# Altium integrated library Renesas Microcontroller H8S.IntLib: 670 symbols (part 69 of 70)
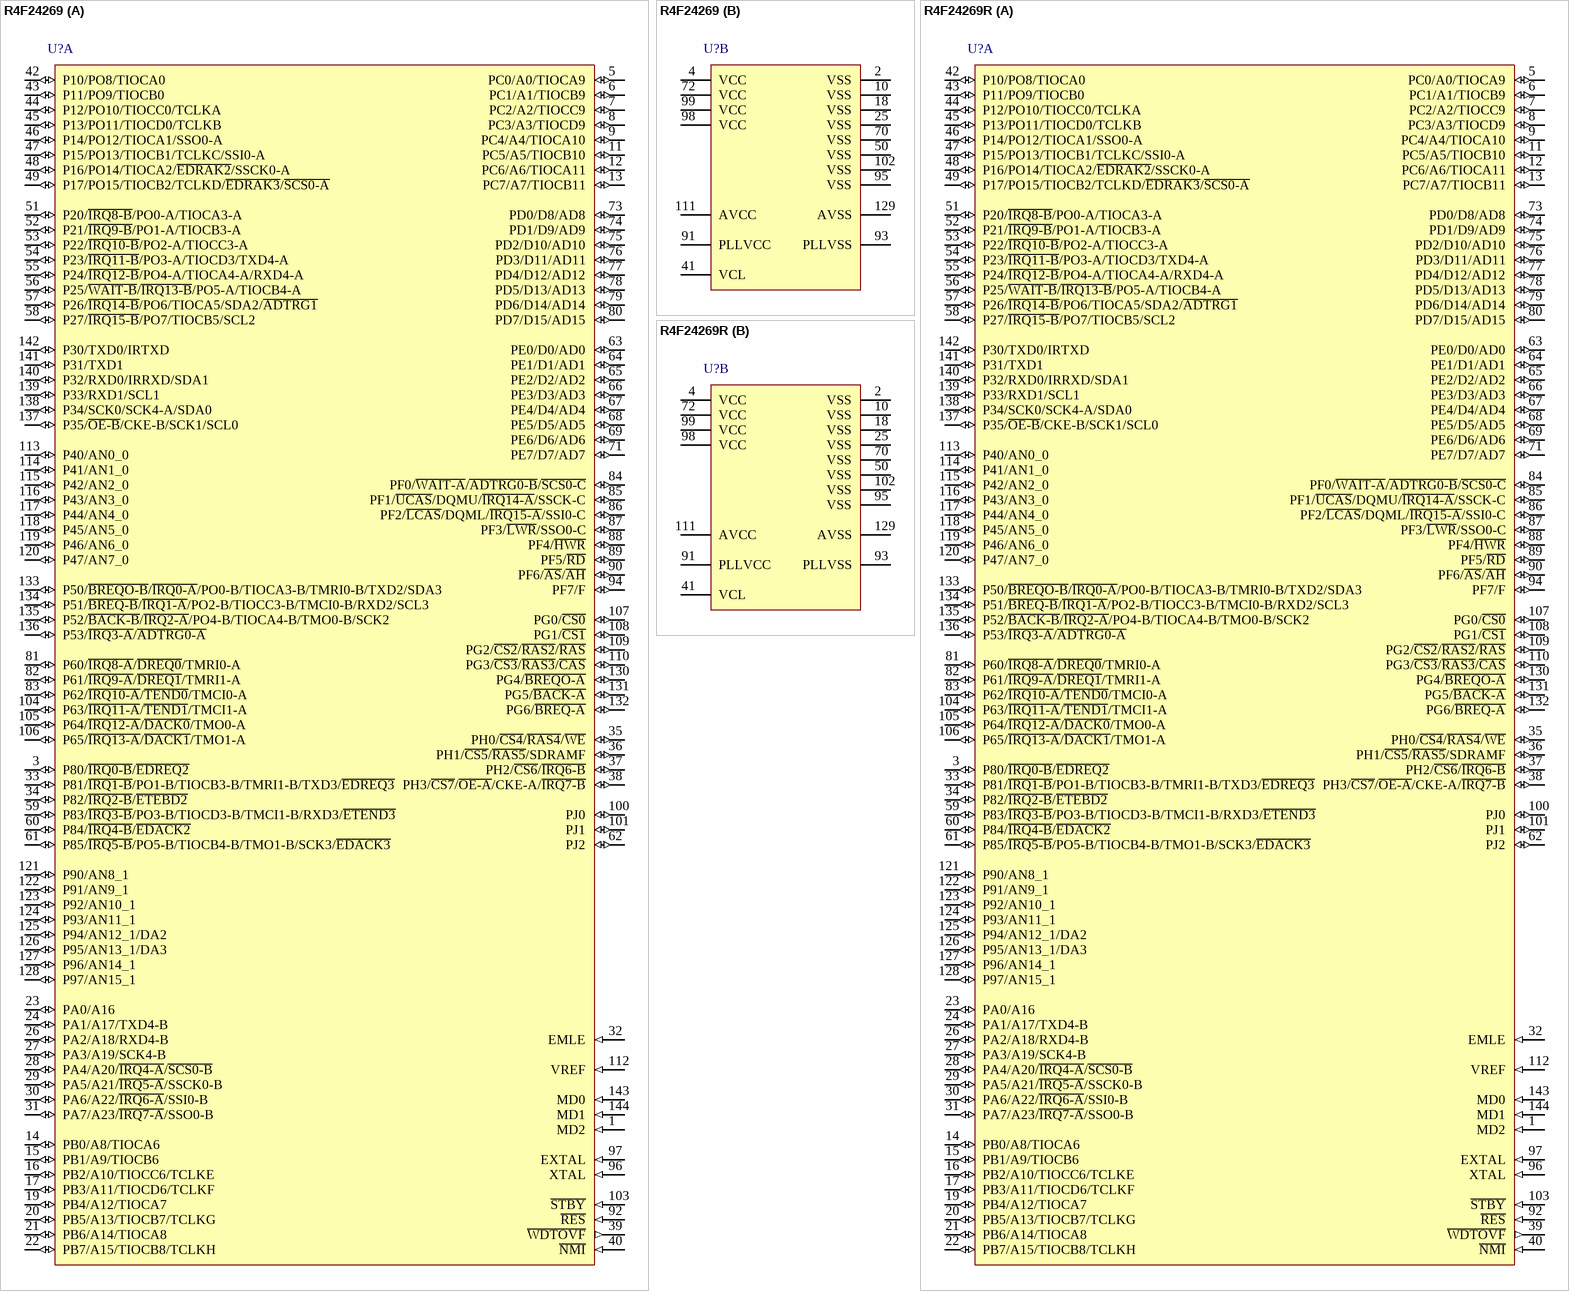
[diagram p279: symbols R4F24269 to R4F24269R]

## R4F24269R
designator U?
Flash memory H8S/2400 Series, 2426R Group MCU, 256K ROM, 64K RAM, FP-144H Pkg; Published: 28-Aug-2009; DatasheetVersion: Rev.2.00, Apr-2009; PackageVersion: Sep-2005; PackageReference: PLQP0144KC-A; Publisher: Altium Limited; PackageDescription: 144-Pin Plastic Low Profile QFP, 20 x 20 x 1.45 mm Body, 0.5 mm Pitch; Code_JEITA: P-LQFP144-20x20-0.50; Code_IPC: SQFP50P2200X2200-144; ComponentLink1Description: Manufacturer Link; ComponentLink1URL: http://sg.renesas.com/fmwk.jsp?cnt=h8s_family_landing.jsp&fp=/products/mpumcu/h8s_family/; ComponentLink2Description: Datasheet; ComponentLink2URL: http://documentation.renesas.com/eng/products/mpumcu/rej09b0466_h8s2426hm.pdf; ComponentLink3Description: Packaging Specification; ComponentLink3URL: http://sg.renesas.com/media/products/common_info/package/pdf/ic/code/plqp0144kc_a.pdf
footprint PLQP0144KC-A_N (Shrink QFP, 144-Leads, Body 20x20mm, Pitch 0.5mm, IPC Medium Density)
footprint PLQP0144KC-A_L (Shrink QFP, 144-Leads, Body 20x20mm, Pitch 0.5mm, IPC High Density)
footprint PLQP0144KC-A_M (Shrink QFP, 144-Leads, Body 20x20mm, Pitch 0.5mm, IPC Low Density)
part A pins: 1 MD2 (in), 3 P80/~{IRQ0-B}/~{EDREQ2} (io), 5 PC0/A0/TIOCA9 (io), 6 PC1/A1/TIOCB9 (io), 7 PC2/A2/TIOCC9 (io), 8 PC3/A3/TIOCD9 (io), 9 PC4/A4/TIOCA10 (io), 11 PC5/A5/TIOCB10 (io), 12 PC6/A6/TIOCA11 (io), 13 PC7/A7/TIOCB11 (io), 14 PB0/A8/TIOCA6 (io), 15 PB1/A9/TIOCB6 (io), 16 PB2/A10/TIOCC6/TCLKE (io), 17 PB3/A11/TIOCD6/TCLKF (io), 19 PB4/A12/TIOCA7 (io), 20 PB5/A13/TIOCB7/TCLKG (io), 21 PB6/A14/TIOCA8 (io), 22 PB7/A15/TIOCB8/TCLKH (io), 23 PA0/A16 (io), 24 PA1/A17/TXD4-B (io), 26 PA2/A18/RXD4-B (io), 27 PA3/A19/SCK4-B (io), 28 PA4/A20/~{IRQ4-A}/~{SCS0-B} (io), 29 PA5/A21/~{IRQ5-A}/SSCK0-B (io), 30 PA6/A22/~{IRQ6-A}/SSI0-B (io), 31 PA7/A23/~{IRQ7-A}/SSO0-B (io), 32 EMLE (in), 33 P81/~{IRQ1-B}/PO1-B/TIOCB3-B/TMRI1-B/TXD3/~{EDREQ3} (io), 34 P82/~{IRQ2-B}/~{ETEBD2} (io), 35 PH0/~{CS4}/~{RAS4}/~{WE} (io), 36 PH1/~{CS5}/~{RAS5}/SDRAMF (io), 37 PH2/~{CS6}/~{IRQ6-B} (io), 38 PH3/~{CS7}/~{OE-A}/CKE-A/~{IRQ7-B} (io), 39 ~{WDTOVF} (out), 40 ~{NMI} (in), 42 P10/PO8/TIOCA0 (io), 43 P11/PO9/TIOCB0 (io), 44 P12/PO10/TIOCC0/TCLKA (io), 45 P13/PO11/TIOCD0/TCLKB (io), 46 P14/PO12/TIOCA1/SSO0-A (io), 47 P15/PO13/TIOCB1/TCLKC/SSI0-A (io), 48 P16/PO14/TIOCA2/~{EDRAK2}/SSCK0-A (io), 49 P17/PO15/TIOCB2/TCLKD/~{EDRAK3}/~{SCS0-A} (io), 51 P20/~{IRQ8-B}/PO0-A/TIOCA3-A (io), 52 P21/~{IRQ9-B}/PO1-A/TIOCB3-A (io), 53 P22/~{IRQ10-B}/PO2-A/TIOCC3-A (io), 54 P23/~{IRQ11-B}/PO3-A/TIOCD3/TXD4-A (io), 55 P24/~{IRQ12-B}/PO4-A/TIOCA4-A/RXD4-A (io), 56 P25/~{WAIT-B}/~{IRQ13-B}/PO5-A/TIOCB4-A (io), 57 P26/~{IRQ14-B}/PO6/TIOCA5/SDA2/~{ADTRG1} (io), 58 P27/~{IRQ15-B}/PO7/TIOCB5/SCL2 (io), 59 P83/~{IRQ3-B}/PO3-B/TIOCD3-B/TMCI1-B/RXD3/~{ETEND3} (io), 60 P84/~{IRQ4-B}/~{EDACK2} (io), 61 P85/~{IRQ5-B}/PO5-B/TIOCB4-B/TMO1-B/SCK3/~{EDACK3} (io), 62 PJ2 (io), 63 PE0/D0/AD0 (io), 64 PE1/D1/AD1 (io), 65 PE2/D2/AD2 (io), 66 PE3/D3/AD3 (io), 67 PE4/D4/AD4 (io), 68 PE5/D5/AD5 (io), 69 PE6/D6/AD6 (io), 71 PE7/D7/AD7 (io), 73 PD0/D8/AD8 (io), 74 PD1/D9/AD9 (io), 75 PD2/D10/AD10 (io), 76 PD3/D11/AD11 (io), 77 PD4/D12/AD12 (io), 78 PD5/D13/AD13 (io), 79 PD6/D14/AD14 (io), 80 PD7/D15/AD15 (io), 81 P60/~{IRQ8-A}/~{DREQ0}/TMRI0-A (io), 82 P61/~{IRQ9-A}/~{DREQ1}/TMRI1-A (io), 83 P62/~{IRQ10-A}/~{TEND0}/TMCI0-A (io), 84 PF0/~{WAIT-A}/~{ADTRG0-B}/~{SCS0-C} (io), 85 PF1/~{UCAS}/DQMU/~{IRQ14-A}/SSCK-C (io), 86 PF2/~{LCAS}/DQML/~{IRQ15-A}/SSI0-C (io), 87 PF3/~{LWR}/SSO0-C (io), 88 PF4/~{HWR} (io), 89 PF5/~{RD} (io), 90 PF6/~{AS}/~{AH} (io), 92 ~{RES} (in), 94 PF7/F (io), 96 XTAL (in), 97 EXTAL (in), 100 PJ0 (io), 101 PJ1 (io), 103 ~{STBY} (in), 104 P63/~{IRQ11-A}/~{TEND1}/TMCI1-A (io), 105 P64/~{IRQ12-A}/~{DACK0}/TMO0-A (io), 106 P65/~{IRQ13-A}/~{DACK1}/TMO1-A (io), 107 PG0/~{CS0} (io), 108 PG1/~{CS1} (io), 109 PG2/~{CS2}/~{RAS2}/~{RAS} (io), 110 PG3/~{CS3}/~{RAS3}/~{CAS} (io), 112 VREF (in), 113 P40/AN0_0 (io), 114 P41/AN1_0 (io), 115 P42/AN2_0 (io), 116 P43/AN3_0 (io), 117 P44/AN4_0 (io), 118 P45/AN5_0 (io), 119 P46/AN6_0 (io), 120 P47/AN7_0 (io), 121 P90/AN8_1 (io), 122 P91/AN9_1 (io), 123 P92/AN10_1 (io), 124 P93/AN11_1 (io), 125 P94/AN12_1/DA2 (io), 126 P95/AN13_1/DA3 (io), 127 P96/AN14_1 (io), 128 P97/AN15_1 (io), 130 PG4/~{BREQO-A} (io), 131 PG5/~{BACK-A} (io), 132 PG6/~{BREQ-A} (io), 133 P50/~{BREQO-B}/~{IRQ0-A}/PO0-B/TIOCA3-B/TMRI0-B/TXD2/SDA3 (io), 134 P51/~{BREQ-B}/~{IRQ1-A}/PO2-B/TIOCC3-B/TMCI0-B/RXD2/SCL3 (io), 135 P52/~{BACK-B}/~{IRQ2-A}/PO4-B/TIOCA4-B/TMO0-B/SCK2 (io), 136 P53/~{IRQ3-A}/~{ADTRG0-A} (io), 137 P35/~{OE-B}/CKE-B/SCK1/SCL0 (io), 138 P34/SCK0/SCK4-A/SDA0 (io), 139 P33/RXD1/SCL1 (io), 140 P32/RXD0/IRRXD/SDA1 (io), 141 P31/TXD1 (io), 142 P30/TXD0/IRTXD (io), 143 MD0 (in), 144 MD1 (in)
part B pins: 2 VSS (power), 4 VCC (power), 10 VSS (power), 18 VSS (power), 25 VSS (power), 41 VCL, 50 VSS (power), 70 VSS (power), 72 VCC (power), 91 PLLVCC (power), 93 PLLVSS (power), 95 VSS (power), 98 VCC (power), 99 VCC (power), 102 VSS (power), 111 AVCC (power), 129 AVSS (power)

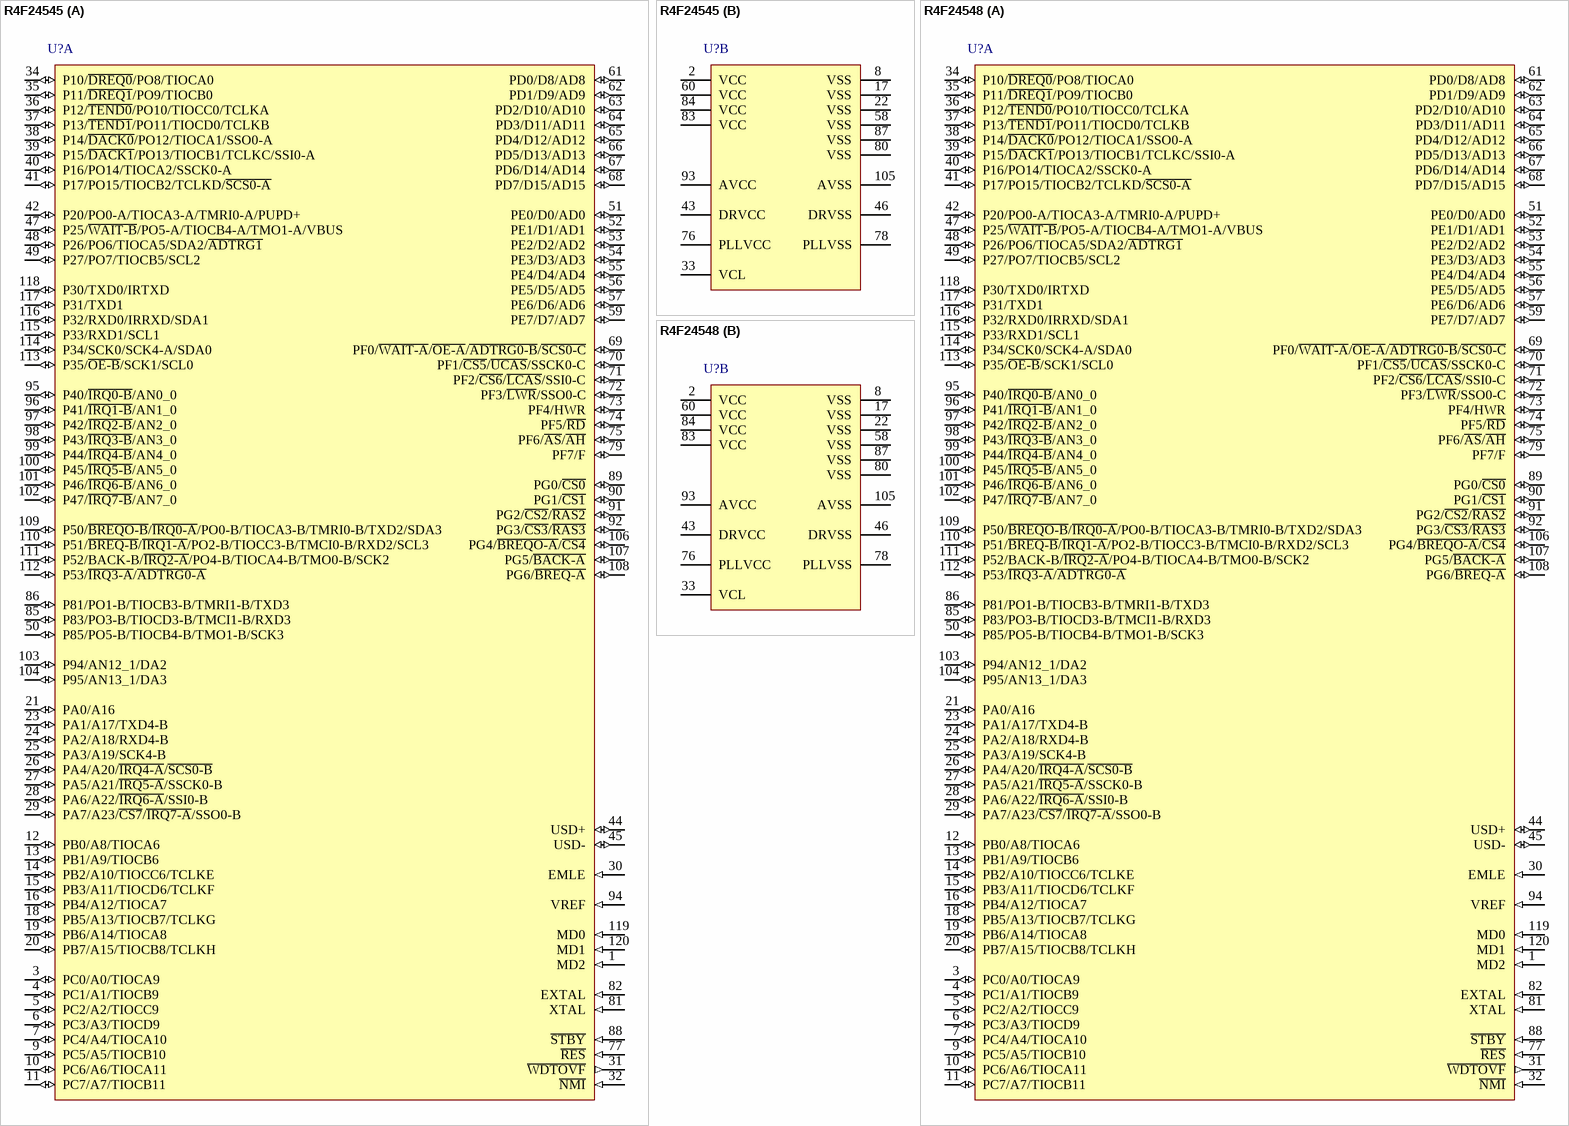
[diagram p235: symbols R4F24545 to R4F24548]

## R4F24545
designator U?
Flash memory H8S/2400 Series, 2454 Group MCU, 128K ROM, 48K RAM; Published: 28-Aug-2009; DatasheetVersion: Rev.2.00, Apr-2009; PackageVersion: Sep-2005; PackageReference: PLQP0120LA-A; Publisher: Altium Limited; PackageDescription: 120-Pin Plastic Low Profile QFP, 14 x 14 x 1.4 mm Body, 0.4 mm Pitch; Code_JEITA: P-LQFP120-14x14-0.40; ComponentLink1Description: Manufacturer Link; ComponentLink1URL: http://sg.renesas.com/fmwk.jsp?cnt=h8s_family_landing.jsp&fp=/products/mpumcu/h8s_family/; ComponentLink2Description: Datasheet; ComponentLink2URL: http://documentation.renesas.com/eng/products/mpumcu/rej09b0467_h8s2456hm.pdf; ComponentLink3Description: Packaging Specification; ComponentLink3URL: http://sg.renesas.com/media/products/common_info/package/pdf/ic/code/plqp0120la_a.pdf
footprint PLQP0120LA-A_N (Shrink QFP, 120-Leads, Body 14x14mm, Pitch 0.4mm, IPC Medium Density)
footprint PLQP0120LA-A_L (Shrink QFP, 120-Leads, Body 14x14mm, Pitch 0.4mm, IPC High Density)
footprint PLQP0120LA-A_M (Shrink QFP, 120-Leads, Body 14x14mm, Pitch 0.4mm, IPC Low Density)
part A pins: 1 MD2 (in), 3 PC0/A0/TIOCA9 (io), 4 PC1/A1/TIOCB9 (io), 5 PC2/A2/TIOCC9 (io), 6 PC3/A3/TIOCD9 (io), 7 PC4/A4/TIOCA10 (io), 9 PC5/A5/TIOCB10 (io), 10 PC6/A6/TIOCA11 (io), 11 PC7/A7/TIOCB11 (io), 12 PB0/A8/TIOCA6 (io), 13 PB1/A9/TIOCB6 (io), 14 PB2/A10/TIOCC6/TCLKE (io), 15 PB3/A11/TIOCD6/TCLKF (io), 16 PB4/A12/TIOCA7 (io), 18 PB5/A13/TIOCB7/TCLKG (io), 19 PB6/A14/TIOCA8 (io), 20 PB7/A15/TIOCB8/TCLKH (io), 21 PA0/A16 (io), 23 PA1/A17/TXD4-B (io), 24 PA2/A18/RXD4-B (io), 25 PA3/A19/SCK4-B (io), 26 PA4/A20/~{IRQ4-A}/~{SCS0-B} (io), 27 PA5/A21/~{IRQ5-A}/SSCK0-B (io), 28 PA6/A22/~{IRQ6-A}/SSI0-B (io), 29 PA7/A23/~{CS7}/~{IRQ7-A}/SSO0-B (io), 30 EMLE (in), 31 ~{WDTOVF} (out), 32 ~{NMI} (in), 34 P10/~{DREQ0}/PO8/TIOCA0 (io), 35 P11/~{DREQ1}/PO9/TIOCB0 (io), 36 P12/~{TEND0}/PO10/TIOCC0/TCLKA (io), 37 P13/~{TEND1}/PO11/TIOCD0/TCLKB (io), 38 P14/~{DACK0}/PO12/TIOCA1/SSO0-A (io), 39 P15/~{DACK1}/PO13/TIOCB1/TCLKC/SSI0-A (io), 40 P16/PO14/TIOCA2/SSCK0-A (io), 41 P17/PO15/TIOCB2/TCLKD/~{SCS0-A} (io), 42 P20/PO0-A/TIOCA3-A/TMRI0-A/PUPD+ (io), 44 USD+ (io), 45 USD- (io), 47 P25/~{WAIT-B}/PO5-A/TIOCB4-A/TMO1-A/VBUS (io), 48 P26/PO6/TIOCA5/SDA2/~{ADTRG1} (io), 49 P27/PO7/TIOCB5/SCL2 (io), 50 P85/PO5-B/TIOCB4-B/TMO1-B/SCK3 (io), 51 PE0/D0/AD0 (io), 52 PE1/D1/AD1 (io), 53 PE2/D2/AD2 (io), 54 PE3/D3/AD3 (io), 55 PE4/D4/AD4 (io), 56 PE5/D5/AD5 (io), 57 PE6/D6/AD6 (io), 59 PE7/D7/AD7 (io), 61 PD0/D8/AD8 (io), 62 PD1/D9/AD9 (io), 63 PD2/D10/AD10 (io), 64 PD3/D11/AD11 (io), 65 PD4/D12/AD12 (io), 66 PD5/D13/AD13 (io), 67 PD6/D14/AD14 (io), 68 PD7/D15/AD15 (io), 69 PF0/~{WAIT-A}/~{OE-A}/~{ADTRG0-B}/~{SCS0-C} (io), 70 PF1/~{CS5}/~{UCAS}/SSCK0-C (io), 71 PF2/~{CS6}/~{LCAS}/SSI0-C (io), 72 PF3/~{LWR}/SSO0-C (io), 73 PF4/HWR (io), 74 PF5/~{RD} (io), 75 PF6/~{AS}/~{AH} (io), 77 ~{RES} (in), 79 PF7/F (io), 81 XTAL (in), 82 EXTAL (in), 85 P83/PO3-B/TIOCD3-B/TMCI1-B/RXD3 (io), 86 P81/PO1-B/TIOCB3-B/TMRI1-B/TXD3 (io), 88 ~{STBY} (in), 89 PG0/~{CS0} (io), 90 PG1/~{CS1} (io), 91 PG2/~{CS2}/~{RAS2} (io), 92 PG3/~{CS3}/~{RAS3} (io), 94 VREF (in), 95 P40/~{IRQ0-B}/AN0_0 (io), 96 P41/~{IRQ1-B}/AN1_0 (io), 97 P42/~{IRQ2-B}/AN2_0 (io), 98 P43/~{IRQ3-B}/AN3_0 (io), 99 P44/~{IRQ4-B}/AN4_0 (io), 100 P45/~{IRQ5-B}/AN5_0 (io), 101 P46/~{IRQ6-B}/AN6_0 (io), 102 P47/~{IRQ7-B}/AN7_0 (io), 103 P94/AN12_1/DA2 (io), 104 P95/AN13_1/DA3 (io), 106 PG4/~{BREQO-A}/~{CS4} (io), 107 PG5/~{BACK-A} (io), 108 PG6/~{BREQ-A} (io), 109 P50/~{BREQO-B}/~{IRQ0-A}/PO0-B/TIOCA3-B/TMRI0-B/TXD2/SDA3 (io), 110 P51/~{BREQ-B}/~{IRQ1-A}/PO2-B/TIOCC3-B/TMCI0-B/RXD2/SCL3 (io), 111 P52/BACK-B/~{IRQ2-A}/PO4-B/TIOCA4-B/TMO0-B/SCK2 (io), 112 P53/~{IRQ3-A}/~{ADTRG0-A} (io), 113 P35/~{OE-B}/SCK1/SCL0 (io), 114 P34/SCK0/SCK4-A/SDA0 (io), 115 P33/RXD1/SCL1 (io), 116 P32/RXD0/IRRXD/SDA1 (io), 117 P31/TXD1 (io), 118 P30/TXD0/IRTXD (io), 119 MD0 (in), 120 MD1 (in)
part B pins: 2 VCC (power), 8 VSS (power), 17 VSS (power), 22 VSS (power), 33 VCL, 43 DRVCC (power), 46 DRVSS (power), 58 VSS (power), 60 VCC (power), 76 PLLVCC (power), 78 PLLVSS (power), 80 VSS (power), 83 VCC (power), 84 VCC (power), 87 VSS (power), 93 AVCC (power), 105 AVSS (power)

## R4F24548
designator U?
Flash memory H8S/2400 Series, 2454 Group MCU, 256K ROM, 48K RAM; Published: 28-Aug-2009; DatasheetVersion: Rev.2.00, Apr-2009; PackageVersion: Sep-2005; PackageReference: PLQP0120LA-A; Publisher: Altium Limited; PackageDescription: 120-Pin Plastic Low Profile QFP, 14 x 14 x 1.4 mm Body, 0.4 mm Pitch; Code_JEITA: P-LQFP120-14x14-0.40; ComponentLink1Description: Manufacturer Link; ComponentLink1URL: http://sg.renesas.com/fmwk.jsp?cnt=h8s_family_landing.jsp&fp=/products/mpumcu/h8s_family/; ComponentLink2Description: Datasheet; ComponentLink2URL: http://documentation.renesas.com/eng/products/mpumcu/rej09b0467_h8s2456hm.pdf; ComponentLink3Description: Packaging Specification; ComponentLink3URL: http://sg.renesas.com/media/products/common_info/package/pdf/ic/code/plqp0120la_a.pdf
footprint PLQP0120LA-A_N (Shrink QFP, 120-Leads, Body 14x14mm, Pitch 0.4mm, IPC Medium Density)
footprint PLQP0120LA-A_L (Shrink QFP, 120-Leads, Body 14x14mm, Pitch 0.4mm, IPC High Density)
footprint PLQP0120LA-A_M (Shrink QFP, 120-Leads, Body 14x14mm, Pitch 0.4mm, IPC Low Density)
part A pins: 1 MD2 (in), 3 PC0/A0/TIOCA9 (io), 4 PC1/A1/TIOCB9 (io), 5 PC2/A2/TIOCC9 (io), 6 PC3/A3/TIOCD9 (io), 7 PC4/A4/TIOCA10 (io), 9 PC5/A5/TIOCB10 (io), 10 PC6/A6/TIOCA11 (io), 11 PC7/A7/TIOCB11 (io), 12 PB0/A8/TIOCA6 (io), 13 PB1/A9/TIOCB6 (io), 14 PB2/A10/TIOCC6/TCLKE (io), 15 PB3/A11/TIOCD6/TCLKF (io), 16 PB4/A12/TIOCA7 (io), 18 PB5/A13/TIOCB7/TCLKG (io), 19 PB6/A14/TIOCA8 (io), 20 PB7/A15/TIOCB8/TCLKH (io), 21 PA0/A16 (io), 23 PA1/A17/TXD4-B (io), 24 PA2/A18/RXD4-B (io), 25 PA3/A19/SCK4-B (io), 26 PA4/A20/~{IRQ4-A}/~{SCS0-B} (io), 27 PA5/A21/~{IRQ5-A}/SSCK0-B (io), 28 PA6/A22/~{IRQ6-A}/SSI0-B (io), 29 PA7/A23/~{CS7}/~{IRQ7-A}/SSO0-B (io), 30 EMLE (in), 31 ~{WDTOVF} (out), 32 ~{NMI} (in), 34 P10/~{DREQ0}/PO8/TIOCA0 (io), 35 P11/~{DREQ1}/PO9/TIOCB0 (io), 36 P12/~{TEND0}/PO10/TIOCC0/TCLKA (io), 37 P13/~{TEND1}/PO11/TIOCD0/TCLKB (io), 38 P14/~{DACK0}/PO12/TIOCA1/SSO0-A (io), 39 P15/~{DACK1}/PO13/TIOCB1/TCLKC/SSI0-A (io), 40 P16/PO14/TIOCA2/SSCK0-A (io), 41 P17/PO15/TIOCB2/TCLKD/~{SCS0-A} (io), 42 P20/PO0-A/TIOCA3-A/TMRI0-A/PUPD+ (io), 44 USD+ (io), 45 USD- (io), 47 P25/~{WAIT-B}/PO5-A/TIOCB4-A/TMO1-A/VBUS (io), 48 P26/PO6/TIOCA5/SDA2/~{ADTRG1} (io), 49 P27/PO7/TIOCB5/SCL2 (io), 50 P85/PO5-B/TIOCB4-B/TMO1-B/SCK3 (io), 51 PE0/D0/AD0 (io), 52 PE1/D1/AD1 (io), 53 PE2/D2/AD2 (io), 54 PE3/D3/AD3 (io), 55 PE4/D4/AD4 (io), 56 PE5/D5/AD5 (io), 57 PE6/D6/AD6 (io), 59 PE7/D7/AD7 (io), 61 PD0/D8/AD8 (io), 62 PD1/D9/AD9 (io), 63 PD2/D10/AD10 (io), 64 PD3/D11/AD11 (io), 65 PD4/D12/AD12 (io), 66 PD5/D13/AD13 (io), 67 PD6/D14/AD14 (io), 68 PD7/D15/AD15 (io), 69 PF0/~{WAIT-A}/~{OE-A}/~{ADTRG0-B}/~{SCS0-C} (io), 70 PF1/~{CS5}/~{UCAS}/SSCK0-C (io), 71 PF2/~{CS6}/~{LCAS}/SSI0-C (io), 72 PF3/~{LWR}/SSO0-C (io), 73 PF4/HWR (io), 74 PF5/~{RD} (io), 75 PF6/~{AS}/~{AH} (io), 77 ~{RES} (in), 79 PF7/F (io), 81 XTAL (in), 82 EXTAL (in), 85 P83/PO3-B/TIOCD3-B/TMCI1-B/RXD3 (io), 86 P81/PO1-B/TIOCB3-B/TMRI1-B/TXD3 (io), 88 ~{STBY} (in), 89 PG0/~{CS0} (io), 90 PG1/~{CS1} (io), 91 PG2/~{CS2}/~{RAS2} (io), 92 PG3/~{CS3}/~{RAS3} (io), 94 VREF (in), 95 P40/~{IRQ0-B}/AN0_0 (io), 96 P41/~{IRQ1-B}/AN1_0 (io), 97 P42/~{IRQ2-B}/AN2_0 (io), 98 P43/~{IRQ3-B}/AN3_0 (io), 99 P44/~{IRQ4-B}/AN4_0 (io), 100 P45/~{IRQ5-B}/AN5_0 (io), 101 P46/~{IRQ6-B}/AN6_0 (io), 102 P47/~{IRQ7-B}/AN7_0 (io), 103 P94/AN12_1/DA2 (io), 104 P95/AN13_1/DA3 (io), 106 PG4/~{BREQO-A}/~{CS4} (io), 107 PG5/~{BACK-A} (io), 108 PG6/~{BREQ-A} (io), 109 P50/~{BREQO-B}/~{IRQ0-A}/PO0-B/TIOCA3-B/TMRI0-B/TXD2/SDA3 (io), 110 P51/~{BREQ-B}/~{IRQ1-A}/PO2-B/TIOCC3-B/TMCI0-B/RXD2/SCL3 (io), 111 P52/BACK-B/~{IRQ2-A}/PO4-B/TIOCA4-B/TMO0-B/SCK2 (io), 112 P53/~{IRQ3-A}/~{ADTRG0-A} (io), 113 P35/~{OE-B}/SCK1/SCL0 (io), 114 P34/SCK0/SCK4-A/SDA0 (io), 115 P33/RXD1/SCL1 (io), 116 P32/RXD0/IRRXD/SDA1 (io), 117 P31/TXD1 (io), 118 P30/TXD0/IRTXD (io), 119 MD0 (in), 120 MD1 (in)
part B pins: 2 VCC (power), 8 VSS (power), 17 VSS (power), 22 VSS (power), 33 VCL, 43 DRVCC (power), 46 DRVSS (power), 58 VSS (power), 60 VCC (power), 76 PLLVCC (power), 78 PLLVSS (power), 80 VSS (power), 83 VCC (power), 84 VCC (power), 87 VSS (power), 93 AVCC (power), 105 AVSS (power)

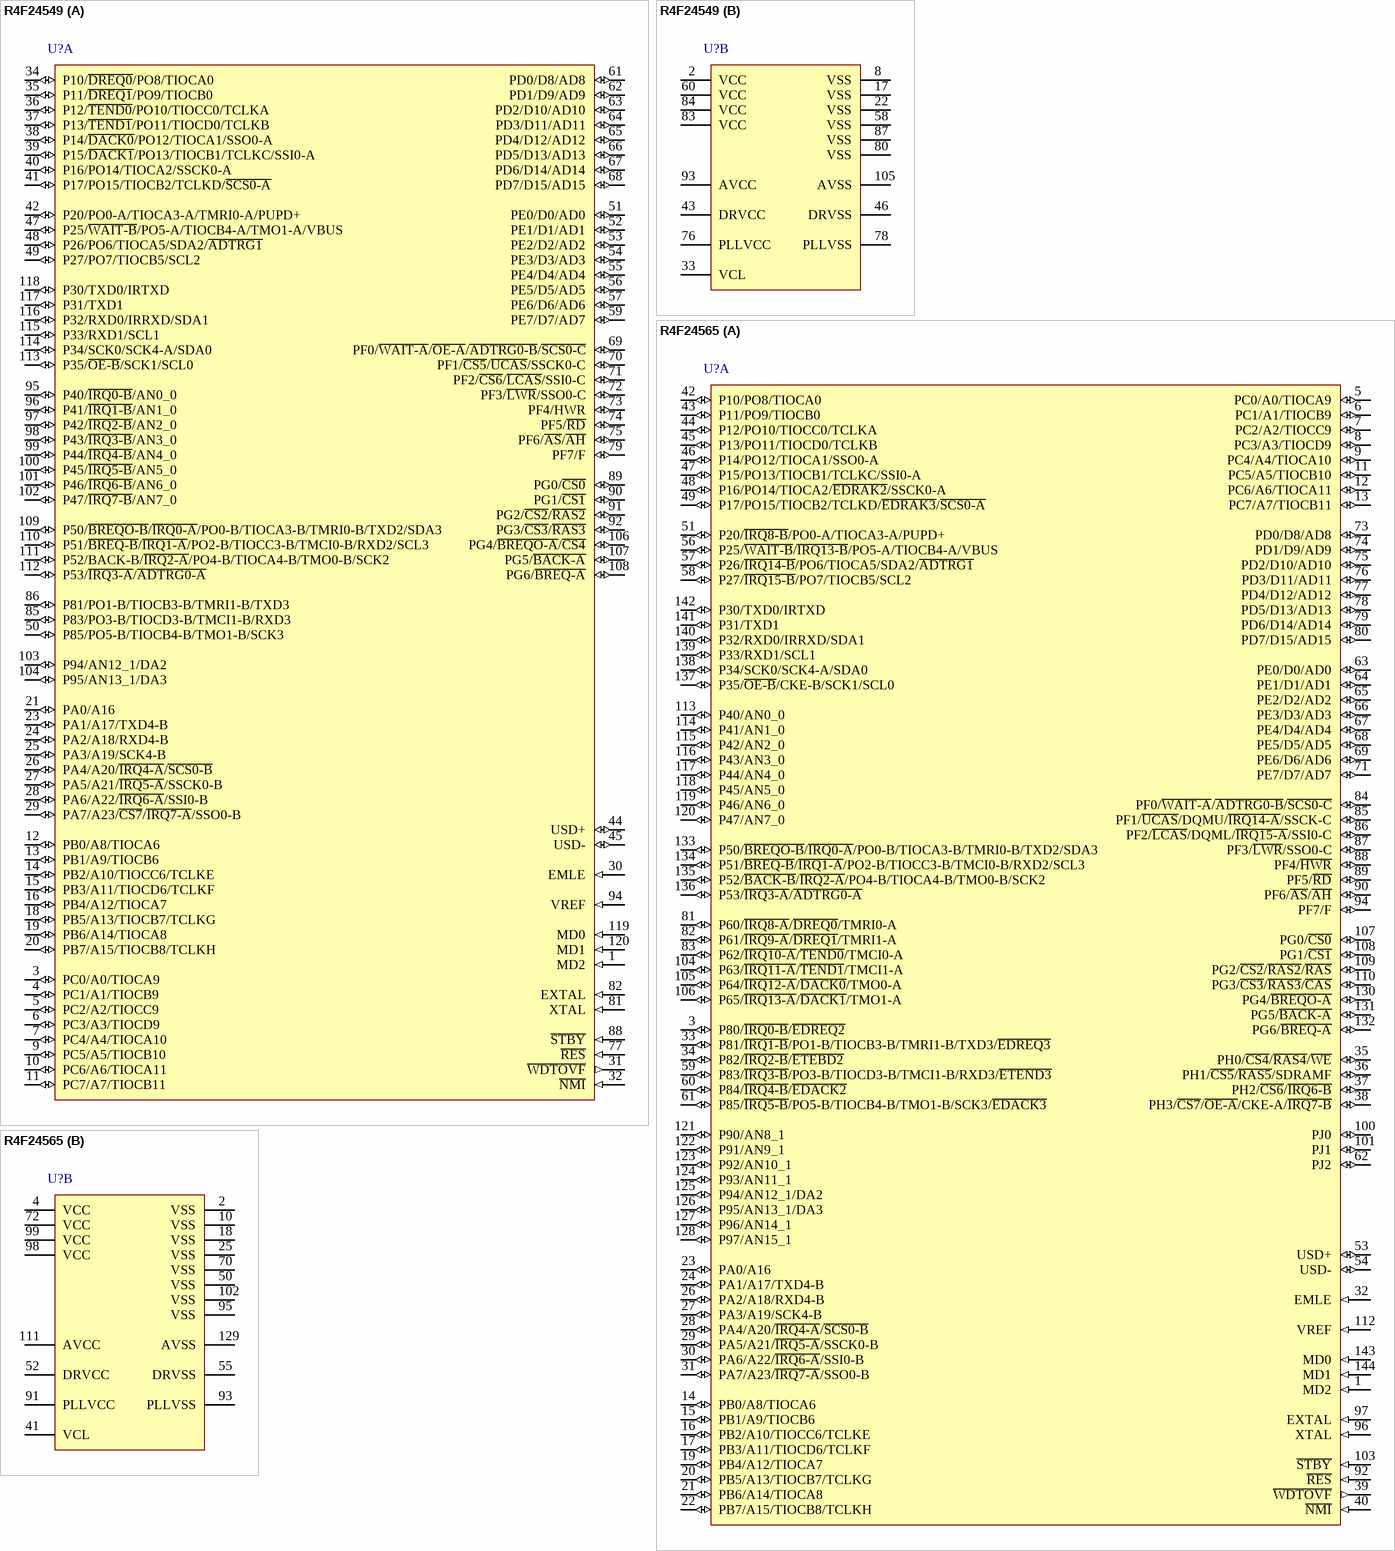
[diagram p236: symbols R4F24549 to R4F24565]

## R4F24549
designator U?
Flash memory H8S/2400 Series, 2454 Group MCU, 256K ROM, 64K RAM; Published: 28-Aug-2009; DatasheetVersion: Rev.2.00, Apr-2009; PackageVersion: Sep-2005; PackageReference: PLQP0120LA-A; Publisher: Altium Limited; PackageDescription: 120-Pin Plastic Low Profile QFP, 14 x 14 x 1.4 mm Body, 0.4 mm Pitch; Code_JEITA: P-LQFP120-14x14-0.40; ComponentLink1Description: Manufacturer Link; ComponentLink1URL: http://sg.renesas.com/fmwk.jsp?cnt=h8s_family_landing.jsp&fp=/products/mpumcu/h8s_family/; ComponentLink2Description: Datasheet; ComponentLink2URL: http://documentation.renesas.com/eng/products/mpumcu/rej09b0467_h8s2456hm.pdf; ComponentLink3Description: Packaging Specification; ComponentLink3URL: http://sg.renesas.com/media/products/common_info/package/pdf/ic/code/plqp0120la_a.pdf
footprint PLQP0120LA-A_N (Shrink QFP, 120-Leads, Body 14x14mm, Pitch 0.4mm, IPC Medium Density)
footprint PLQP0120LA-A_L (Shrink QFP, 120-Leads, Body 14x14mm, Pitch 0.4mm, IPC High Density)
footprint PLQP0120LA-A_M (Shrink QFP, 120-Leads, Body 14x14mm, Pitch 0.4mm, IPC Low Density)
part A pins: 1 MD2 (in), 3 PC0/A0/TIOCA9 (io), 4 PC1/A1/TIOCB9 (io), 5 PC2/A2/TIOCC9 (io), 6 PC3/A3/TIOCD9 (io), 7 PC4/A4/TIOCA10 (io), 9 PC5/A5/TIOCB10 (io), 10 PC6/A6/TIOCA11 (io), 11 PC7/A7/TIOCB11 (io), 12 PB0/A8/TIOCA6 (io), 13 PB1/A9/TIOCB6 (io), 14 PB2/A10/TIOCC6/TCLKE (io), 15 PB3/A11/TIOCD6/TCLKF (io), 16 PB4/A12/TIOCA7 (io), 18 PB5/A13/TIOCB7/TCLKG (io), 19 PB6/A14/TIOCA8 (io), 20 PB7/A15/TIOCB8/TCLKH (io), 21 PA0/A16 (io), 23 PA1/A17/TXD4-B (io), 24 PA2/A18/RXD4-B (io), 25 PA3/A19/SCK4-B (io), 26 PA4/A20/~{IRQ4-A}/~{SCS0-B} (io), 27 PA5/A21/~{IRQ5-A}/SSCK0-B (io), 28 PA6/A22/~{IRQ6-A}/SSI0-B (io), 29 PA7/A23/~{CS7}/~{IRQ7-A}/SSO0-B (io), 30 EMLE (in), 31 ~{WDTOVF} (out), 32 ~{NMI} (in), 34 P10/~{DREQ0}/PO8/TIOCA0 (io), 35 P11/~{DREQ1}/PO9/TIOCB0 (io), 36 P12/~{TEND0}/PO10/TIOCC0/TCLKA (io), 37 P13/~{TEND1}/PO11/TIOCD0/TCLKB (io), 38 P14/~{DACK0}/PO12/TIOCA1/SSO0-A (io), 39 P15/~{DACK1}/PO13/TIOCB1/TCLKC/SSI0-A (io), 40 P16/PO14/TIOCA2/SSCK0-A (io), 41 P17/PO15/TIOCB2/TCLKD/~{SCS0-A} (io), 42 P20/PO0-A/TIOCA3-A/TMRI0-A/PUPD+ (io), 44 USD+ (io), 45 USD- (io), 47 P25/~{WAIT-B}/PO5-A/TIOCB4-A/TMO1-A/VBUS (io), 48 P26/PO6/TIOCA5/SDA2/~{ADTRG1} (io), 49 P27/PO7/TIOCB5/SCL2 (io), 50 P85/PO5-B/TIOCB4-B/TMO1-B/SCK3 (io), 51 PE0/D0/AD0 (io), 52 PE1/D1/AD1 (io), 53 PE2/D2/AD2 (io), 54 PE3/D3/AD3 (io), 55 PE4/D4/AD4 (io), 56 PE5/D5/AD5 (io), 57 PE6/D6/AD6 (io), 59 PE7/D7/AD7 (io), 61 PD0/D8/AD8 (io), 62 PD1/D9/AD9 (io), 63 PD2/D10/AD10 (io), 64 PD3/D11/AD11 (io), 65 PD4/D12/AD12 (io), 66 PD5/D13/AD13 (io), 67 PD6/D14/AD14 (io), 68 PD7/D15/AD15 (io), 69 PF0/~{WAIT-A}/~{OE-A}/~{ADTRG0-B}/~{SCS0-C} (io), 70 PF1/~{CS5}/~{UCAS}/SSCK0-C (io), 71 PF2/~{CS6}/~{LCAS}/SSI0-C (io), 72 PF3/~{LWR}/SSO0-C (io), 73 PF4/HWR (io), 74 PF5/~{RD} (io), 75 PF6/~{AS}/~{AH} (io), 77 ~{RES} (in), 79 PF7/F (io), 81 XTAL (in), 82 EXTAL (in), 85 P83/PO3-B/TIOCD3-B/TMCI1-B/RXD3 (io), 86 P81/PO1-B/TIOCB3-B/TMRI1-B/TXD3 (io), 88 ~{STBY} (in), 89 PG0/~{CS0} (io), 90 PG1/~{CS1} (io), 91 PG2/~{CS2}/~{RAS2} (io), 92 PG3/~{CS3}/~{RAS3} (io), 94 VREF (in), 95 P40/~{IRQ0-B}/AN0_0 (io), 96 P41/~{IRQ1-B}/AN1_0 (io), 97 P42/~{IRQ2-B}/AN2_0 (io), 98 P43/~{IRQ3-B}/AN3_0 (io), 99 P44/~{IRQ4-B}/AN4_0 (io), 100 P45/~{IRQ5-B}/AN5_0 (io), 101 P46/~{IRQ6-B}/AN6_0 (io), 102 P47/~{IRQ7-B}/AN7_0 (io), 103 P94/AN12_1/DA2 (io), 104 P95/AN13_1/DA3 (io), 106 PG4/~{BREQO-A}/~{CS4} (io), 107 PG5/~{BACK-A} (io), 108 PG6/~{BREQ-A} (io), 109 P50/~{BREQO-B}/~{IRQ0-A}/PO0-B/TIOCA3-B/TMRI0-B/TXD2/SDA3 (io), 110 P51/~{BREQ-B}/~{IRQ1-A}/PO2-B/TIOCC3-B/TMCI0-B/RXD2/SCL3 (io), 111 P52/BACK-B/~{IRQ2-A}/PO4-B/TIOCA4-B/TMO0-B/SCK2 (io), 112 P53/~{IRQ3-A}/~{ADTRG0-A} (io), 113 P35/~{OE-B}/SCK1/SCL0 (io), 114 P34/SCK0/SCK4-A/SDA0 (io), 115 P33/RXD1/SCL1 (io), 116 P32/RXD0/IRRXD/SDA1 (io), 117 P31/TXD1 (io), 118 P30/TXD0/IRTXD (io), 119 MD0 (in), 120 MD1 (in)
part B pins: 2 VCC (power), 8 VSS (power), 17 VSS (power), 22 VSS (power), 33 VCL, 43 DRVCC (power), 46 DRVSS (power), 58 VSS (power), 60 VCC (power), 76 PLLVCC (power), 78 PLLVSS (power), 80 VSS (power), 83 VCC (power), 84 VCC (power), 87 VSS (power), 93 AVCC (power), 105 AVSS (power)

## R4F24565
designator U?
Flash memory H8S/2400 Series, 2456 Group MCU, 128K ROM, 48K RAM, FP-144H Pkg; Published: 28-Aug-2009; DatasheetVersion: Rev.2.00, Apr-2009; PackageVersion: Sep-2005; PackageReference: PLQP0144KC-A; Publisher: Altium Limited; PackageDescription: 144-Pin Plastic Low Profile QFP, 20 x 20 x 1.45 mm Body, 0.5 mm Pitch; Code_JEITA: P-LQFP144-20x20-0.50; Code_IPC: SQFP50P2200X2200-144; ComponentLink1Description: Manufacturer Link; ComponentLink1URL: http://sg.renesas.com/fmwk.jsp?cnt=h8s_family_landing.jsp&fp=/products/mpumcu/h8s_family/; ComponentLink2Description: Datasheet; ComponentLink2URL: http://documentation.renesas.com/eng/products/mpumcu/rej09b0467_h8s2456hm.pdf; ComponentLink3Description: Packaging Specification; ComponentLink3URL: http://sg.renesas.com/media/products/common_info/package/pdf/ic/code/plqp0144kc_a.pdf
footprint PLQP0144KC-A_N (Shrink QFP, 144-Leads, Body 20x20mm, Pitch 0.5mm, IPC Medium Density)
footprint PLQP0144KC-A_L (Shrink QFP, 144-Leads, Body 20x20mm, Pitch 0.5mm, IPC High Density)
footprint PLQP0144KC-A_M (Shrink QFP, 144-Leads, Body 20x20mm, Pitch 0.5mm, IPC Low Density)
part A pins: 1 MD2 (in), 3 P80/~{IRQ0-B}/~{EDREQ2} (io), 5 PC0/A0/TIOCA9 (io), 6 PC1/A1/TIOCB9 (io), 7 PC2/A2/TIOCC9 (io), 8 PC3/A3/TIOCD9 (io), 9 PC4/A4/TIOCA10 (io), 11 PC5/A5/TIOCB10 (io), 12 PC6/A6/TIOCA11 (io), 13 PC7/A7/TIOCB11 (io), 14 PB0/A8/TIOCA6 (io), 15 PB1/A9/TIOCB6 (io), 16 PB2/A10/TIOCC6/TCLKE (io), 17 PB3/A11/TIOCD6/TCLKF (io), 19 PB4/A12/TIOCA7 (io), 20 PB5/A13/TIOCB7/TCLKG (io), 21 PB6/A14/TIOCA8 (io), 22 PB7/A15/TIOCB8/TCLKH (io), 23 PA0/A16 (io), 24 PA1/A17/TXD4-B (io), 26 PA2/A18/RXD4-B (io), 27 PA3/A19/SCK4-B (io), 28 PA4/A20/~{IRQ4-A}/~{SCS0-B} (io), 29 PA5/A21/~{IRQ5-A}/SSCK0-B (io), 30 PA6/A22/~{IRQ6-A}/SSI0-B (io), 31 PA7/A23/~{IRQ7-A}/SSO0-B (io), 32 EMLE (in), 33 P81/~{IRQ1-B}/PO1-B/TIOCB3-B/TMRI1-B/TXD3/~{EDREQ3} (io), 34 P82/~{IRQ2-B}/~{ETEBD2} (io), 35 PH0/~{CS4}/~{RAS4}/~{WE} (io), 36 PH1/~{CS5}/~{RAS5}/SDRAMF (io), 37 PH2/~{CS6}/~{IRQ6-B} (io), 38 PH3/~{CS7}/~{OE-A}/CKE-A/~{IRQ7-B} (io), 39 ~{WDTOVF} (out), 40 ~{NMI} (in), 42 P10/PO8/TIOCA0 (io), 43 P11/PO9/TIOCB0 (io), 44 P12/PO10/TIOCC0/TCLKA (io), 45 P13/PO11/TIOCD0/TCLKB (io), 46 P14/PO12/TIOCA1/SSO0-A (io), 47 P15/PO13/TIOCB1/TCLKC/SSI0-A (io), 48 P16/PO14/TIOCA2/~{EDRAK2}/SSCK0-A (io), 49 P17/PO15/TIOCB2/TCLKD/~{EDRAK3}/~{SCS0-A} (io), 51 P20/~{IRQ8-B}/PO0-A/TIOCA3-A/PUPD+ (io), 53 USD+ (io), 54 USD- (io), 56 P25/~{WAIT-B}/~{IRQ13-B}/PO5-A/TIOCB4-A/VBUS (io), 57 P26/~{IRQ14-B}/PO6/TIOCA5/SDA2/~{ADTRG1} (io), 58 P27/~{IRQ15-B}/PO7/TIOCB5/SCL2 (io), 59 P83/~{IRQ3-B}/PO3-B/TIOCD3-B/TMCI1-B/RXD3/~{ETEND3} (io), 60 P84/~{IRQ4-B}/~{EDACK2} (io), 61 P85/~{IRQ5-B}/PO5-B/TIOCB4-B/TMO1-B/SCK3/~{EDACK3} (io), 62 PJ2 (io), 63 PE0/D0/AD0 (io), 64 PE1/D1/AD1 (io), 65 PE2/D2/AD2 (io), 66 PE3/D3/AD3 (io), 67 PE4/D4/AD4 (io), 68 PE5/D5/AD5 (io), 69 PE6/D6/AD6 (io), 71 PE7/D7/AD7 (io), 73 PD0/D8/AD8 (io), 74 PD1/D9/AD9 (io), 75 PD2/D10/AD10 (io), 76 PD3/D11/AD11 (io), 77 PD4/D12/AD12 (io), 78 PD5/D13/AD13 (io), 79 PD6/D14/AD14 (io), 80 PD7/D15/AD15 (io), 81 P60/~{IRQ8-A}/~{DREQ0}/TMRI0-A (io), 82 P61/~{IRQ9-A}/~{DREQ1}/TMRI1-A (io), 83 P62/~{IRQ10-A}/~{TEND0}/TMCI0-A (io), 84 PF0/~{WAIT-A}/~{ADTRG0-B}/~{SCS0-C} (io), 85 PF1/~{UCAS}/DQMU/~{IRQ14-A}/SSCK-C (io), 86 PF2/~{LCAS}/DQML/~{IRQ15-A}/SSI0-C (io), 87 PF3/~{LWR}/SSO0-C (io), 88 PF4/~{HWR} (io), 89 PF5/~{RD} (io), 90 PF6/~{AS}/~{AH} (io), 92 ~{RES} (in), 94 PF7/F (io), 96 XTAL (in), 97 EXTAL (in), 100 PJ0 (io), 101 PJ1 (io), 103 ~{STBY} (in), 104 P63/~{IRQ11-A}/~{TEND1}/TMCI1-A (io), 105 P64/~{IRQ12-A}/~{DACK0}/TMO0-A (io), 106 P65/~{IRQ13-A}/~{DACK1}/TMO1-A (io), 107 PG0/~{CS0} (io), 108 PG1/~{CS1} (io), 109 PG2/~{CS2}/~{RAS2}/~{RAS} (io), 110 PG3/~{CS3}/~{RAS3}/~{CAS} (io), 112 VREF (in), 113 P40/AN0_0 (io), 114 P41/AN1_0 (io), 115 P42/AN2_0 (io), 116 P43/AN3_0 (io), 117 P44/AN4_0 (io), 118 P45/AN5_0 (io), 119 P46/AN6_0 (io), 120 P47/AN7_0 (io), 121 P90/AN8_1 (io), 122 P91/AN9_1 (io), 123 P92/AN10_1 (io), 124 P93/AN11_1 (io), 125 P94/AN12_1/DA2 (io), 126 P95/AN13_1/DA3 (io), 127 P96/AN14_1 (io), 128 P97/AN15_1 (io), 130 PG4/~{BREQO-A} (io), 131 PG5/~{BACK-A} (io), 132 PG6/~{BREQ-A} (io), 133 P50/~{BREQO-B}/~{IRQ0-A}/PO0-B/TIOCA3-B/TMRI0-B/TXD2/SDA3 (io), 134 P51/~{BREQ-B}/~{IRQ1-A}/PO2-B/TIOCC3-B/TMCI0-B/RXD2/SCL3 (io), 135 P52/~{BACK-B}/~{IRQ2-A}/PO4-B/TIOCA4-B/TMO0-B/SCK2 (io), 136 P53/~{IRQ3-A}/~{ADTRG0-A} (io), 137 P35/~{OE-B}/CKE-B/SCK1/SCL0 (io), 138 P34/SCK0/SCK4-A/SDA0 (io), 139 P33/RXD1/SCL1 (io), 140 P32/RXD0/IRRXD/SDA1 (io), 141 P31/TXD1 (io), 142 P30/TXD0/IRTXD (io), 143 MD0 (in), 144 MD1 (in)
part B pins: 2 VSS (power), 4 VCC (power), 10 VSS (power), 18 VSS (power), 25 VSS (power), 41 VCL, 50 VSS (power), 52 DRVCC (power), 55 DRVSS (power), 70 VSS (power), 72 VCC (power), 91 PLLVCC (power), 93 PLLVSS (power), 95 VSS (power), 98 VCC (power), 99 VCC (power), 102 VSS (power), 111 AVCC (power), 129 AVSS (power)

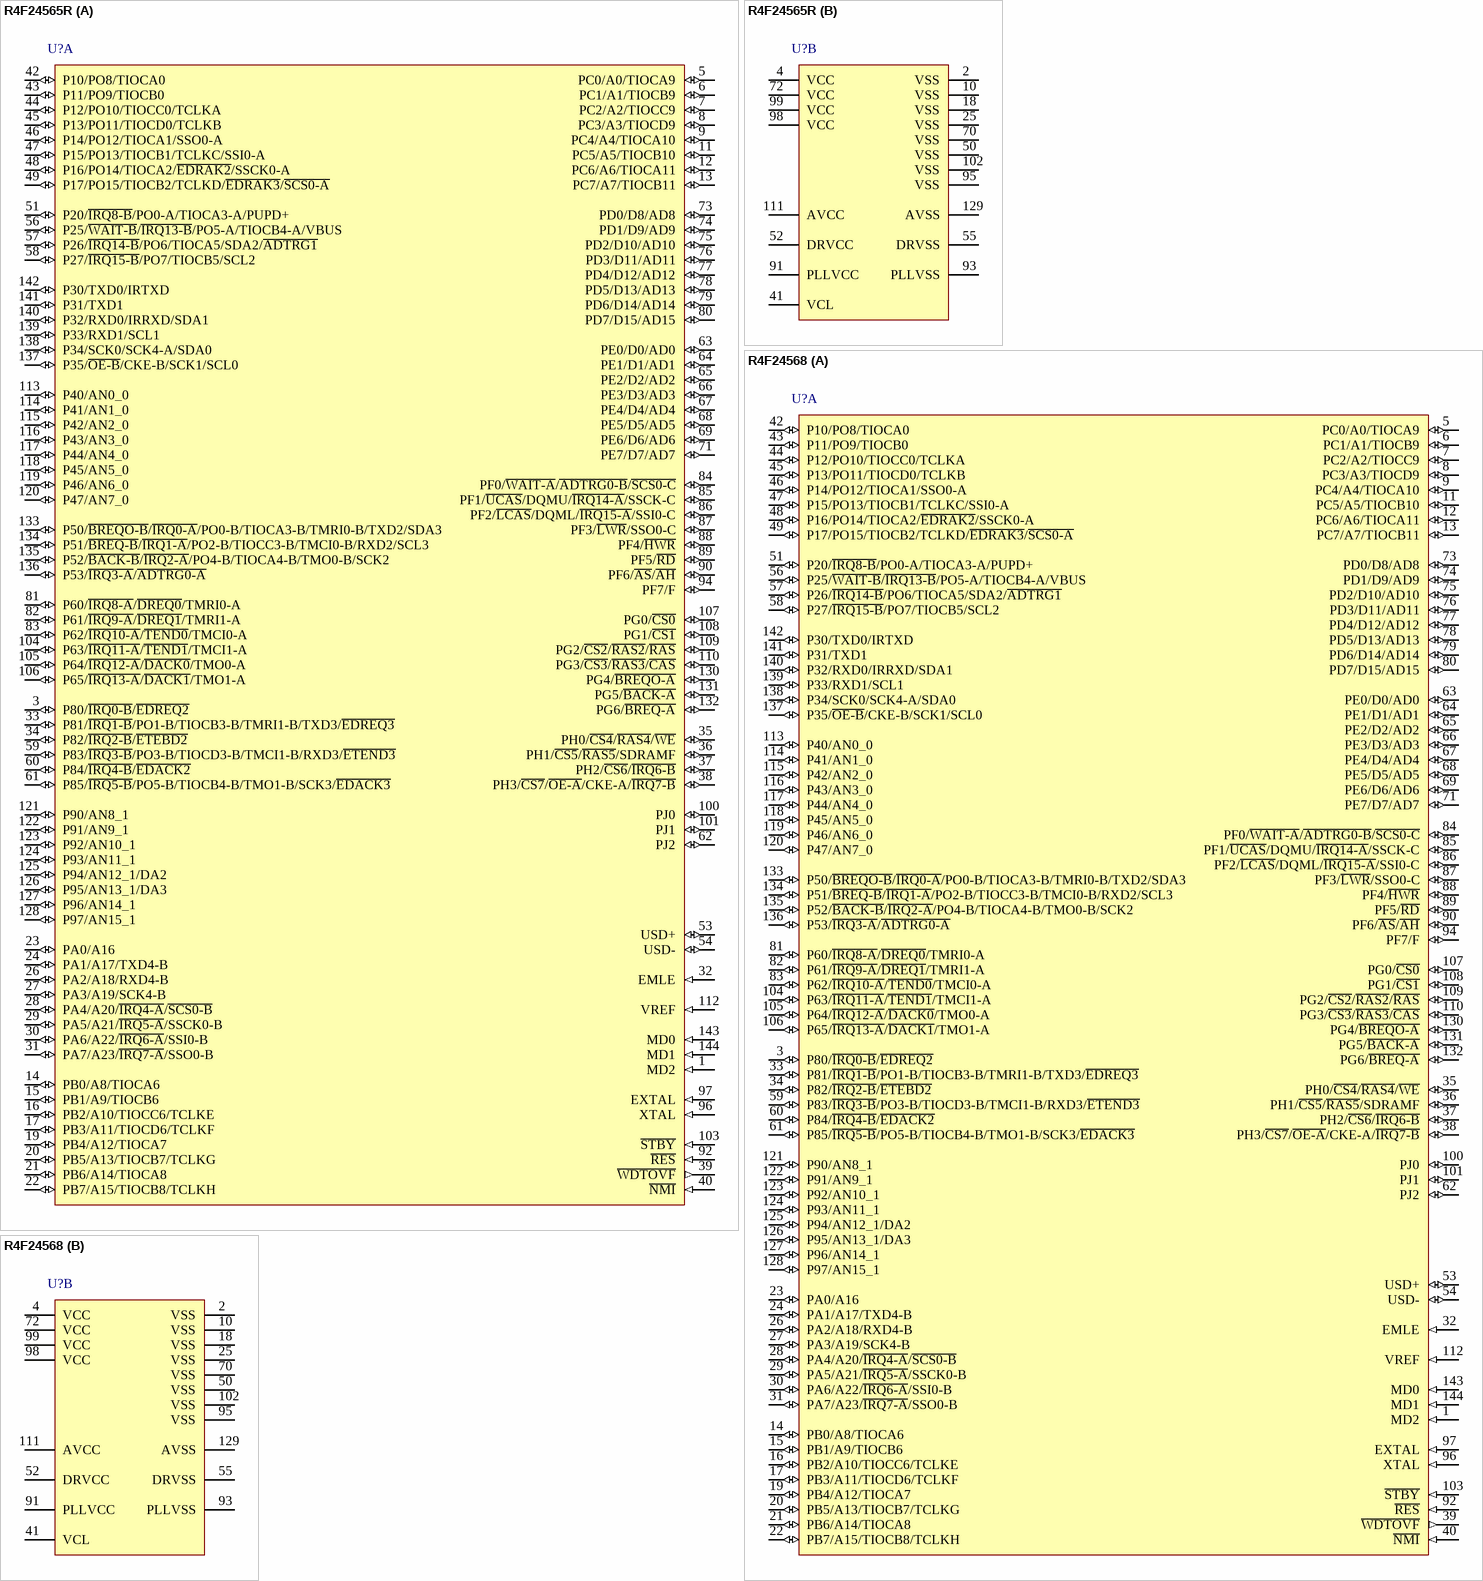
[diagram p237: symbols R4F24565R to R4F24568]

## R4F24565R
designator U?
Flash memory H8S/2400 Series, 2456R Group MCU, 128K ROM, 48K RAM, FP-144H Pkg; Published: 28-Aug-2009; DatasheetVersion: Rev.2.00, Apr-2009; PackageVersion: Sep-2005; PackageReference: PLQP0144KC-A; Publisher: Altium Limited; PackageDescription: 144-Pin Plastic Low Profile QFP, 20 x 20 x 1.45 mm Body, 0.5 mm Pitch; Code_JEITA: P-LQFP144-20x20-0.50; Code_IPC: SQFP50P2200X2200-144; ComponentLink1Description: Manufacturer Link; ComponentLink1URL: http://sg.renesas.com/fmwk.jsp?cnt=h8s_family_landing.jsp&fp=/products/mpumcu/h8s_family/; ComponentLink2Description: Datasheet; ComponentLink2URL: http://documentation.renesas.com/eng/products/mpumcu/rej09b0467_h8s2456hm.pdf; ComponentLink3Description: Packaging Specification; ComponentLink3URL: http://sg.renesas.com/media/products/common_info/package/pdf/ic/code/plqp0144kc_a.pdf
footprint PLQP0144KC-A_N (Shrink QFP, 144-Leads, Body 20x20mm, Pitch 0.5mm, IPC Medium Density)
footprint PLQP0144KC-A_L (Shrink QFP, 144-Leads, Body 20x20mm, Pitch 0.5mm, IPC High Density)
footprint PLQP0144KC-A_M (Shrink QFP, 144-Leads, Body 20x20mm, Pitch 0.5mm, IPC Low Density)
part A pins: 1 MD2 (in), 3 P80/~{IRQ0-B}/~{EDREQ2} (io), 5 PC0/A0/TIOCA9 (io), 6 PC1/A1/TIOCB9 (io), 7 PC2/A2/TIOCC9 (io), 8 PC3/A3/TIOCD9 (io), 9 PC4/A4/TIOCA10 (io), 11 PC5/A5/TIOCB10 (io), 12 PC6/A6/TIOCA11 (io), 13 PC7/A7/TIOCB11 (io), 14 PB0/A8/TIOCA6 (io), 15 PB1/A9/TIOCB6 (io), 16 PB2/A10/TIOCC6/TCLKE (io), 17 PB3/A11/TIOCD6/TCLKF (io), 19 PB4/A12/TIOCA7 (io), 20 PB5/A13/TIOCB7/TCLKG (io), 21 PB6/A14/TIOCA8 (io), 22 PB7/A15/TIOCB8/TCLKH (io), 23 PA0/A16 (io), 24 PA1/A17/TXD4-B (io), 26 PA2/A18/RXD4-B (io), 27 PA3/A19/SCK4-B (io), 28 PA4/A20/~{IRQ4-A}/~{SCS0-B} (io), 29 PA5/A21/~{IRQ5-A}/SSCK0-B (io), 30 PA6/A22/~{IRQ6-A}/SSI0-B (io), 31 PA7/A23/~{IRQ7-A}/SSO0-B (io), 32 EMLE (in), 33 P81/~{IRQ1-B}/PO1-B/TIOCB3-B/TMRI1-B/TXD3/~{EDREQ3} (io), 34 P82/~{IRQ2-B}/~{ETEBD2} (io), 35 PH0/~{CS4}/~{RAS4}/~{WE} (io), 36 PH1/~{CS5}/~{RAS5}/SDRAMF (io), 37 PH2/~{CS6}/~{IRQ6-B} (io), 38 PH3/~{CS7}/~{OE-A}/CKE-A/~{IRQ7-B} (io), 39 ~{WDTOVF} (out), 40 ~{NMI} (in), 42 P10/PO8/TIOCA0 (io), 43 P11/PO9/TIOCB0 (io), 44 P12/PO10/TIOCC0/TCLKA (io), 45 P13/PO11/TIOCD0/TCLKB (io), 46 P14/PO12/TIOCA1/SSO0-A (io), 47 P15/PO13/TIOCB1/TCLKC/SSI0-A (io), 48 P16/PO14/TIOCA2/~{EDRAK2}/SSCK0-A (io), 49 P17/PO15/TIOCB2/TCLKD/~{EDRAK3}/~{SCS0-A} (io), 51 P20/~{IRQ8-B}/PO0-A/TIOCA3-A/PUPD+ (io), 53 USD+ (io), 54 USD- (io), 56 P25/~{WAIT-B}/~{IRQ13-B}/PO5-A/TIOCB4-A/VBUS (io), 57 P26/~{IRQ14-B}/PO6/TIOCA5/SDA2/~{ADTRG1} (io), 58 P27/~{IRQ15-B}/PO7/TIOCB5/SCL2 (io), 59 P83/~{IRQ3-B}/PO3-B/TIOCD3-B/TMCI1-B/RXD3/~{ETEND3} (io), 60 P84/~{IRQ4-B}/~{EDACK2} (io), 61 P85/~{IRQ5-B}/PO5-B/TIOCB4-B/TMO1-B/SCK3/~{EDACK3} (io), 62 PJ2 (io), 63 PE0/D0/AD0 (io), 64 PE1/D1/AD1 (io), 65 PE2/D2/AD2 (io), 66 PE3/D3/AD3 (io), 67 PE4/D4/AD4 (io), 68 PE5/D5/AD5 (io), 69 PE6/D6/AD6 (io), 71 PE7/D7/AD7 (io), 73 PD0/D8/AD8 (io), 74 PD1/D9/AD9 (io), 75 PD2/D10/AD10 (io), 76 PD3/D11/AD11 (io), 77 PD4/D12/AD12 (io), 78 PD5/D13/AD13 (io), 79 PD6/D14/AD14 (io), 80 PD7/D15/AD15 (io), 81 P60/~{IRQ8-A}/~{DREQ0}/TMRI0-A (io), 82 P61/~{IRQ9-A}/~{DREQ1}/TMRI1-A (io), 83 P62/~{IRQ10-A}/~{TEND0}/TMCI0-A (io), 84 PF0/~{WAIT-A}/~{ADTRG0-B}/~{SCS0-C} (io), 85 PF1/~{UCAS}/DQMU/~{IRQ14-A}/SSCK-C (io), 86 PF2/~{LCAS}/DQML/~{IRQ15-A}/SSI0-C (io), 87 PF3/~{LWR}/SSO0-C (io), 88 PF4/~{HWR} (io), 89 PF5/~{RD} (io), 90 PF6/~{AS}/~{AH} (io), 92 ~{RES} (in), 94 PF7/F (io), 96 XTAL (in), 97 EXTAL (in), 100 PJ0 (io), 101 PJ1 (io), 103 ~{STBY} (in), 104 P63/~{IRQ11-A}/~{TEND1}/TMCI1-A (io), 105 P64/~{IRQ12-A}/~{DACK0}/TMO0-A (io), 106 P65/~{IRQ13-A}/~{DACK1}/TMO1-A (io), 107 PG0/~{CS0} (io), 108 PG1/~{CS1} (io), 109 PG2/~{CS2}/~{RAS2}/~{RAS} (io), 110 PG3/~{CS3}/~{RAS3}/~{CAS} (io), 112 VREF (in), 113 P40/AN0_0 (io), 114 P41/AN1_0 (io), 115 P42/AN2_0 (io), 116 P43/AN3_0 (io), 117 P44/AN4_0 (io), 118 P45/AN5_0 (io), 119 P46/AN6_0 (io), 120 P47/AN7_0 (io), 121 P90/AN8_1 (io), 122 P91/AN9_1 (io), 123 P92/AN10_1 (io), 124 P93/AN11_1 (io), 125 P94/AN12_1/DA2 (io), 126 P95/AN13_1/DA3 (io), 127 P96/AN14_1 (io), 128 P97/AN15_1 (io), 130 PG4/~{BREQO-A} (io), 131 PG5/~{BACK-A} (io), 132 PG6/~{BREQ-A} (io), 133 P50/~{BREQO-B}/~{IRQ0-A}/PO0-B/TIOCA3-B/TMRI0-B/TXD2/SDA3 (io), 134 P51/~{BREQ-B}/~{IRQ1-A}/PO2-B/TIOCC3-B/TMCI0-B/RXD2/SCL3 (io), 135 P52/~{BACK-B}/~{IRQ2-A}/PO4-B/TIOCA4-B/TMO0-B/SCK2 (io), 136 P53/~{IRQ3-A}/~{ADTRG0-A} (io), 137 P35/~{OE-B}/CKE-B/SCK1/SCL0 (io), 138 P34/SCK0/SCK4-A/SDA0 (io), 139 P33/RXD1/SCL1 (io), 140 P32/RXD0/IRRXD/SDA1 (io), 141 P31/TXD1 (io), 142 P30/TXD0/IRTXD (io), 143 MD0 (in), 144 MD1 (in)
part B pins: 2 VSS (power), 4 VCC (power), 10 VSS (power), 18 VSS (power), 25 VSS (power), 41 VCL, 50 VSS (power), 52 DRVCC (power), 55 DRVSS (power), 70 VSS (power), 72 VCC (power), 91 PLLVCC (power), 93 PLLVSS (power), 95 VSS (power), 98 VCC (power), 99 VCC (power), 102 VSS (power), 111 AVCC (power), 129 AVSS (power)

## R4F24568
designator U?
Flash memory H8S/2400 Series, 2456 Group MCU, 256K ROM, 48K RAM, FP-144H Pkg; Published: 28-Aug-2009; DatasheetVersion: Rev.2.00, Apr-2009; PackageVersion: Sep-2005; PackageReference: PLQP0144KC-A; Publisher: Altium Limited; PackageDescription: 144-Pin Plastic Low Profile QFP, 20 x 20 x 1.45 mm Body, 0.5 mm Pitch; Code_JEITA: P-LQFP144-20x20-0.50; Code_IPC: SQFP50P2200X2200-144; ComponentLink1Description: Manufacturer Link; ComponentLink1URL: http://sg.renesas.com/fmwk.jsp?cnt=h8s_family_landing.jsp&fp=/products/mpumcu/h8s_family/; ComponentLink2Description: Datasheet; ComponentLink2URL: http://documentation.renesas.com/eng/products/mpumcu/rej09b0467_h8s2456hm.pdf; ComponentLink3Description: Packaging Specification; ComponentLink3URL: http://sg.renesas.com/media/products/common_info/package/pdf/ic/code/plqp0144kc_a.pdf
footprint PLQP0144KC-A_N (Shrink QFP, 144-Leads, Body 20x20mm, Pitch 0.5mm, IPC Medium Density)
footprint PLQP0144KC-A_L (Shrink QFP, 144-Leads, Body 20x20mm, Pitch 0.5mm, IPC High Density)
footprint PLQP0144KC-A_M (Shrink QFP, 144-Leads, Body 20x20mm, Pitch 0.5mm, IPC Low Density)
part A pins: 1 MD2 (in), 3 P80/~{IRQ0-B}/~{EDREQ2} (io), 5 PC0/A0/TIOCA9 (io), 6 PC1/A1/TIOCB9 (io), 7 PC2/A2/TIOCC9 (io), 8 PC3/A3/TIOCD9 (io), 9 PC4/A4/TIOCA10 (io), 11 PC5/A5/TIOCB10 (io), 12 PC6/A6/TIOCA11 (io), 13 PC7/A7/TIOCB11 (io), 14 PB0/A8/TIOCA6 (io), 15 PB1/A9/TIOCB6 (io), 16 PB2/A10/TIOCC6/TCLKE (io), 17 PB3/A11/TIOCD6/TCLKF (io), 19 PB4/A12/TIOCA7 (io), 20 PB5/A13/TIOCB7/TCLKG (io), 21 PB6/A14/TIOCA8 (io), 22 PB7/A15/TIOCB8/TCLKH (io), 23 PA0/A16 (io), 24 PA1/A17/TXD4-B (io), 26 PA2/A18/RXD4-B (io), 27 PA3/A19/SCK4-B (io), 28 PA4/A20/~{IRQ4-A}/~{SCS0-B} (io), 29 PA5/A21/~{IRQ5-A}/SSCK0-B (io), 30 PA6/A22/~{IRQ6-A}/SSI0-B (io), 31 PA7/A23/~{IRQ7-A}/SSO0-B (io), 32 EMLE (in), 33 P81/~{IRQ1-B}/PO1-B/TIOCB3-B/TMRI1-B/TXD3/~{EDREQ3} (io), 34 P82/~{IRQ2-B}/~{ETEBD2} (io), 35 PH0/~{CS4}/~{RAS4}/~{WE} (io), 36 PH1/~{CS5}/~{RAS5}/SDRAMF (io), 37 PH2/~{CS6}/~{IRQ6-B} (io), 38 PH3/~{CS7}/~{OE-A}/CKE-A/~{IRQ7-B} (io), 39 ~{WDTOVF} (out), 40 ~{NMI} (in), 42 P10/PO8/TIOCA0 (io), 43 P11/PO9/TIOCB0 (io), 44 P12/PO10/TIOCC0/TCLKA (io), 45 P13/PO11/TIOCD0/TCLKB (io), 46 P14/PO12/TIOCA1/SSO0-A (io), 47 P15/PO13/TIOCB1/TCLKC/SSI0-A (io), 48 P16/PO14/TIOCA2/~{EDRAK2}/SSCK0-A (io), 49 P17/PO15/TIOCB2/TCLKD/~{EDRAK3}/~{SCS0-A} (io), 51 P20/~{IRQ8-B}/PO0-A/TIOCA3-A/PUPD+ (io), 53 USD+ (io), 54 USD- (io), 56 P25/~{WAIT-B}/~{IRQ13-B}/PO5-A/TIOCB4-A/VBUS (io), 57 P26/~{IRQ14-B}/PO6/TIOCA5/SDA2/~{ADTRG1} (io), 58 P27/~{IRQ15-B}/PO7/TIOCB5/SCL2 (io), 59 P83/~{IRQ3-B}/PO3-B/TIOCD3-B/TMCI1-B/RXD3/~{ETEND3} (io), 60 P84/~{IRQ4-B}/~{EDACK2} (io), 61 P85/~{IRQ5-B}/PO5-B/TIOCB4-B/TMO1-B/SCK3/~{EDACK3} (io), 62 PJ2 (io), 63 PE0/D0/AD0 (io), 64 PE1/D1/AD1 (io), 65 PE2/D2/AD2 (io), 66 PE3/D3/AD3 (io), 67 PE4/D4/AD4 (io), 68 PE5/D5/AD5 (io), 69 PE6/D6/AD6 (io), 71 PE7/D7/AD7 (io), 73 PD0/D8/AD8 (io), 74 PD1/D9/AD9 (io), 75 PD2/D10/AD10 (io), 76 PD3/D11/AD11 (io), 77 PD4/D12/AD12 (io), 78 PD5/D13/AD13 (io), 79 PD6/D14/AD14 (io), 80 PD7/D15/AD15 (io), 81 P60/~{IRQ8-A}/~{DREQ0}/TMRI0-A (io), 82 P61/~{IRQ9-A}/~{DREQ1}/TMRI1-A (io), 83 P62/~{IRQ10-A}/~{TEND0}/TMCI0-A (io), 84 PF0/~{WAIT-A}/~{ADTRG0-B}/~{SCS0-C} (io), 85 PF1/~{UCAS}/DQMU/~{IRQ14-A}/SSCK-C (io), 86 PF2/~{LCAS}/DQML/~{IRQ15-A}/SSI0-C (io), 87 PF3/~{LWR}/SSO0-C (io), 88 PF4/~{HWR} (io), 89 PF5/~{RD} (io), 90 PF6/~{AS}/~{AH} (io), 92 ~{RES} (in), 94 PF7/F (io), 96 XTAL (in), 97 EXTAL (in), 100 PJ0 (io), 101 PJ1 (io), 103 ~{STBY} (in), 104 P63/~{IRQ11-A}/~{TEND1}/TMCI1-A (io), 105 P64/~{IRQ12-A}/~{DACK0}/TMO0-A (io), 106 P65/~{IRQ13-A}/~{DACK1}/TMO1-A (io), 107 PG0/~{CS0} (io), 108 PG1/~{CS1} (io), 109 PG2/~{CS2}/~{RAS2}/~{RAS} (io), 110 PG3/~{CS3}/~{RAS3}/~{CAS} (io), 112 VREF (in), 113 P40/AN0_0 (io), 114 P41/AN1_0 (io), 115 P42/AN2_0 (io), 116 P43/AN3_0 (io), 117 P44/AN4_0 (io), 118 P45/AN5_0 (io), 119 P46/AN6_0 (io), 120 P47/AN7_0 (io), 121 P90/AN8_1 (io), 122 P91/AN9_1 (io), 123 P92/AN10_1 (io), 124 P93/AN11_1 (io), 125 P94/AN12_1/DA2 (io), 126 P95/AN13_1/DA3 (io), 127 P96/AN14_1 (io), 128 P97/AN15_1 (io), 130 PG4/~{BREQO-A} (io), 131 PG5/~{BACK-A} (io), 132 PG6/~{BREQ-A} (io), 133 P50/~{BREQO-B}/~{IRQ0-A}/PO0-B/TIOCA3-B/TMRI0-B/TXD2/SDA3 (io), 134 P51/~{BREQ-B}/~{IRQ1-A}/PO2-B/TIOCC3-B/TMCI0-B/RXD2/SCL3 (io), 135 P52/~{BACK-B}/~{IRQ2-A}/PO4-B/TIOCA4-B/TMO0-B/SCK2 (io), 136 P53/~{IRQ3-A}/~{ADTRG0-A} (io), 137 P35/~{OE-B}/CKE-B/SCK1/SCL0 (io), 138 P34/SCK0/SCK4-A/SDA0 (io), 139 P33/RXD1/SCL1 (io), 140 P32/RXD0/IRRXD/SDA1 (io), 141 P31/TXD1 (io), 142 P30/TXD0/IRTXD (io), 143 MD0 (in), 144 MD1 (in)
part B pins: 2 VSS (power), 4 VCC (power), 10 VSS (power), 18 VSS (power), 25 VSS (power), 41 VCL, 50 VSS (power), 52 DRVCC (power), 55 DRVSS (power), 70 VSS (power), 72 VCC (power), 91 PLLVCC (power), 93 PLLVSS (power), 95 VSS (power), 98 VCC (power), 99 VCC (power), 102 VSS (power), 111 AVCC (power), 129 AVSS (power)

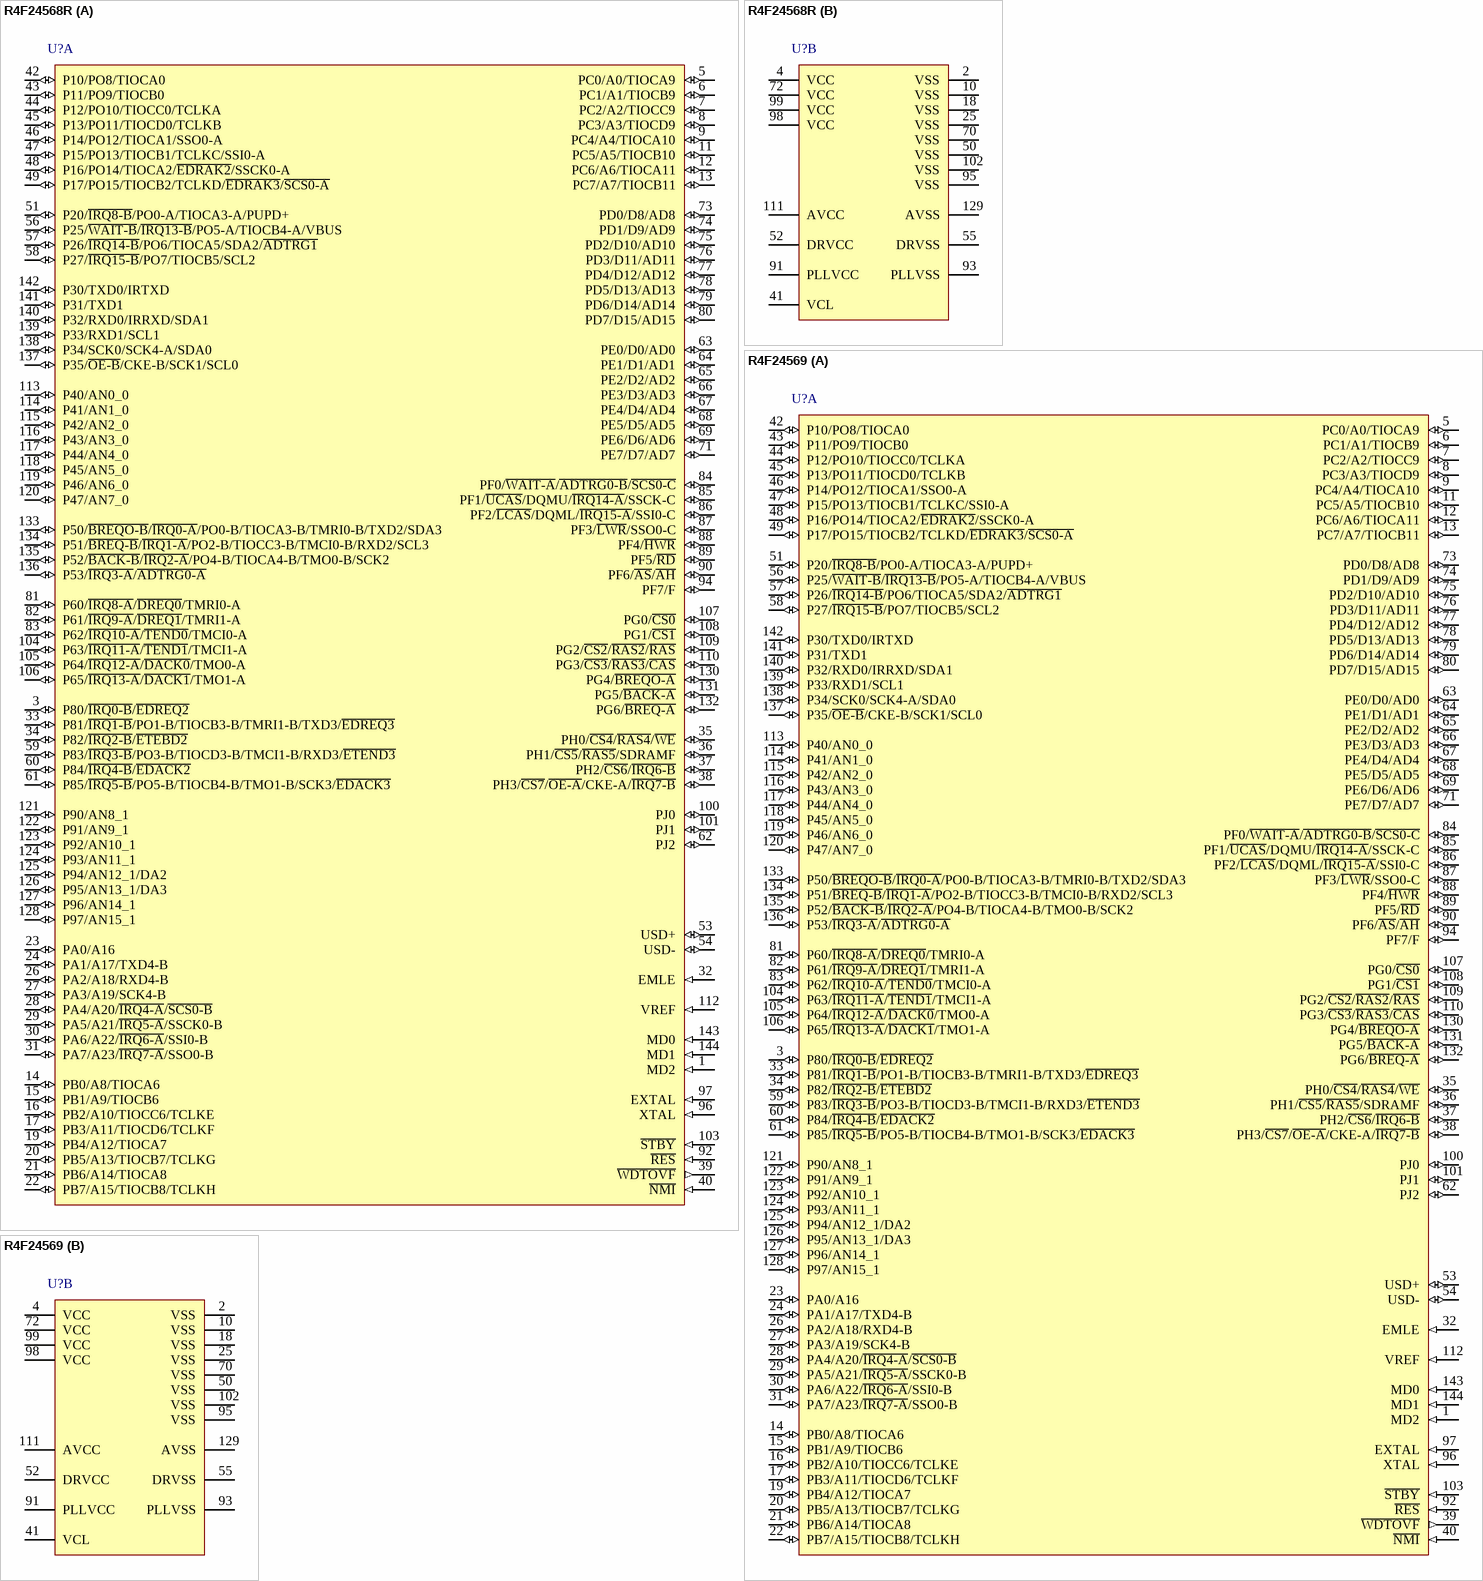
[diagram p238: symbols R4F24568R to R4F24569]

## R4F24568R
designator U?
Flash memory H8S/2400 Series, 2456R Group MCU, 256K ROM, 48K RAM, FP-144H Pkg; Published: 28-Aug-2009; DatasheetVersion: Rev.2.00, Apr-2009; PackageVersion: Sep-2005; PackageReference: PLQP0144KC-A; Publisher: Altium Limited; PackageDescription: 144-Pin Plastic Low Profile QFP, 20 x 20 x 1.45 mm Body, 0.5 mm Pitch; Code_JEITA: P-LQFP144-20x20-0.50; Code_IPC: SQFP50P2200X2200-144; ComponentLink1Description: Manufacturer Link; ComponentLink1URL: http://sg.renesas.com/fmwk.jsp?cnt=h8s_family_landing.jsp&fp=/products/mpumcu/h8s_family/; ComponentLink2Description: Datasheet; ComponentLink2URL: http://documentation.renesas.com/eng/products/mpumcu/rej09b0467_h8s2456hm.pdf; ComponentLink3Description: Packaging Specification; ComponentLink3URL: http://sg.renesas.com/media/products/common_info/package/pdf/ic/code/plqp0144kc_a.pdf
footprint PLQP0144KC-A_N (Shrink QFP, 144-Leads, Body 20x20mm, Pitch 0.5mm, IPC Medium Density)
footprint PLQP0144KC-A_L (Shrink QFP, 144-Leads, Body 20x20mm, Pitch 0.5mm, IPC High Density)
footprint PLQP0144KC-A_M (Shrink QFP, 144-Leads, Body 20x20mm, Pitch 0.5mm, IPC Low Density)
part A pins: 1 MD2 (in), 3 P80/~{IRQ0-B}/~{EDREQ2} (io), 5 PC0/A0/TIOCA9 (io), 6 PC1/A1/TIOCB9 (io), 7 PC2/A2/TIOCC9 (io), 8 PC3/A3/TIOCD9 (io), 9 PC4/A4/TIOCA10 (io), 11 PC5/A5/TIOCB10 (io), 12 PC6/A6/TIOCA11 (io), 13 PC7/A7/TIOCB11 (io), 14 PB0/A8/TIOCA6 (io), 15 PB1/A9/TIOCB6 (io), 16 PB2/A10/TIOCC6/TCLKE (io), 17 PB3/A11/TIOCD6/TCLKF (io), 19 PB4/A12/TIOCA7 (io), 20 PB5/A13/TIOCB7/TCLKG (io), 21 PB6/A14/TIOCA8 (io), 22 PB7/A15/TIOCB8/TCLKH (io), 23 PA0/A16 (io), 24 PA1/A17/TXD4-B (io), 26 PA2/A18/RXD4-B (io), 27 PA3/A19/SCK4-B (io), 28 PA4/A20/~{IRQ4-A}/~{SCS0-B} (io), 29 PA5/A21/~{IRQ5-A}/SSCK0-B (io), 30 PA6/A22/~{IRQ6-A}/SSI0-B (io), 31 PA7/A23/~{IRQ7-A}/SSO0-B (io), 32 EMLE (in), 33 P81/~{IRQ1-B}/PO1-B/TIOCB3-B/TMRI1-B/TXD3/~{EDREQ3} (io), 34 P82/~{IRQ2-B}/~{ETEBD2} (io), 35 PH0/~{CS4}/~{RAS4}/~{WE} (io), 36 PH1/~{CS5}/~{RAS5}/SDRAMF (io), 37 PH2/~{CS6}/~{IRQ6-B} (io), 38 PH3/~{CS7}/~{OE-A}/CKE-A/~{IRQ7-B} (io), 39 ~{WDTOVF} (out), 40 ~{NMI} (in), 42 P10/PO8/TIOCA0 (io), 43 P11/PO9/TIOCB0 (io), 44 P12/PO10/TIOCC0/TCLKA (io), 45 P13/PO11/TIOCD0/TCLKB (io), 46 P14/PO12/TIOCA1/SSO0-A (io), 47 P15/PO13/TIOCB1/TCLKC/SSI0-A (io), 48 P16/PO14/TIOCA2/~{EDRAK2}/SSCK0-A (io), 49 P17/PO15/TIOCB2/TCLKD/~{EDRAK3}/~{SCS0-A} (io), 51 P20/~{IRQ8-B}/PO0-A/TIOCA3-A/PUPD+ (io), 53 USD+ (io), 54 USD- (io), 56 P25/~{WAIT-B}/~{IRQ13-B}/PO5-A/TIOCB4-A/VBUS (io), 57 P26/~{IRQ14-B}/PO6/TIOCA5/SDA2/~{ADTRG1} (io), 58 P27/~{IRQ15-B}/PO7/TIOCB5/SCL2 (io), 59 P83/~{IRQ3-B}/PO3-B/TIOCD3-B/TMCI1-B/RXD3/~{ETEND3} (io), 60 P84/~{IRQ4-B}/~{EDACK2} (io), 61 P85/~{IRQ5-B}/PO5-B/TIOCB4-B/TMO1-B/SCK3/~{EDACK3} (io), 62 PJ2 (io), 63 PE0/D0/AD0 (io), 64 PE1/D1/AD1 (io), 65 PE2/D2/AD2 (io), 66 PE3/D3/AD3 (io), 67 PE4/D4/AD4 (io), 68 PE5/D5/AD5 (io), 69 PE6/D6/AD6 (io), 71 PE7/D7/AD7 (io), 73 PD0/D8/AD8 (io), 74 PD1/D9/AD9 (io), 75 PD2/D10/AD10 (io), 76 PD3/D11/AD11 (io), 77 PD4/D12/AD12 (io), 78 PD5/D13/AD13 (io), 79 PD6/D14/AD14 (io), 80 PD7/D15/AD15 (io), 81 P60/~{IRQ8-A}/~{DREQ0}/TMRI0-A (io), 82 P61/~{IRQ9-A}/~{DREQ1}/TMRI1-A (io), 83 P62/~{IRQ10-A}/~{TEND0}/TMCI0-A (io), 84 PF0/~{WAIT-A}/~{ADTRG0-B}/~{SCS0-C} (io), 85 PF1/~{UCAS}/DQMU/~{IRQ14-A}/SSCK-C (io), 86 PF2/~{LCAS}/DQML/~{IRQ15-A}/SSI0-C (io), 87 PF3/~{LWR}/SSO0-C (io), 88 PF4/~{HWR} (io), 89 PF5/~{RD} (io), 90 PF6/~{AS}/~{AH} (io), 92 ~{RES} (in), 94 PF7/F (io), 96 XTAL (in), 97 EXTAL (in), 100 PJ0 (io), 101 PJ1 (io), 103 ~{STBY} (in), 104 P63/~{IRQ11-A}/~{TEND1}/TMCI1-A (io), 105 P64/~{IRQ12-A}/~{DACK0}/TMO0-A (io), 106 P65/~{IRQ13-A}/~{DACK1}/TMO1-A (io), 107 PG0/~{CS0} (io), 108 PG1/~{CS1} (io), 109 PG2/~{CS2}/~{RAS2}/~{RAS} (io), 110 PG3/~{CS3}/~{RAS3}/~{CAS} (io), 112 VREF (in), 113 P40/AN0_0 (io), 114 P41/AN1_0 (io), 115 P42/AN2_0 (io), 116 P43/AN3_0 (io), 117 P44/AN4_0 (io), 118 P45/AN5_0 (io), 119 P46/AN6_0 (io), 120 P47/AN7_0 (io), 121 P90/AN8_1 (io), 122 P91/AN9_1 (io), 123 P92/AN10_1 (io), 124 P93/AN11_1 (io), 125 P94/AN12_1/DA2 (io), 126 P95/AN13_1/DA3 (io), 127 P96/AN14_1 (io), 128 P97/AN15_1 (io), 130 PG4/~{BREQO-A} (io), 131 PG5/~{BACK-A} (io), 132 PG6/~{BREQ-A} (io), 133 P50/~{BREQO-B}/~{IRQ0-A}/PO0-B/TIOCA3-B/TMRI0-B/TXD2/SDA3 (io), 134 P51/~{BREQ-B}/~{IRQ1-A}/PO2-B/TIOCC3-B/TMCI0-B/RXD2/SCL3 (io), 135 P52/~{BACK-B}/~{IRQ2-A}/PO4-B/TIOCA4-B/TMO0-B/SCK2 (io), 136 P53/~{IRQ3-A}/~{ADTRG0-A} (io), 137 P35/~{OE-B}/CKE-B/SCK1/SCL0 (io), 138 P34/SCK0/SCK4-A/SDA0 (io), 139 P33/RXD1/SCL1 (io), 140 P32/RXD0/IRRXD/SDA1 (io), 141 P31/TXD1 (io), 142 P30/TXD0/IRTXD (io), 143 MD0 (in), 144 MD1 (in)
part B pins: 2 VSS (power), 4 VCC (power), 10 VSS (power), 18 VSS (power), 25 VSS (power), 41 VCL, 50 VSS (power), 52 DRVCC (power), 55 DRVSS (power), 70 VSS (power), 72 VCC (power), 91 PLLVCC (power), 93 PLLVSS (power), 95 VSS (power), 98 VCC (power), 99 VCC (power), 102 VSS (power), 111 AVCC (power), 129 AVSS (power)

## R4F24569
designator U?
Flash memory H8S/2400 Series, 2456 Group MCU, 256K ROM, 64K RAM, FP-144H Pkg; Published: 28-Aug-2009; DatasheetVersion: Rev.2.00, Apr-2009; PackageVersion: Sep-2005; PackageReference: PLQP0144KC-A; Publisher: Altium Limited; PackageDescription: 144-Pin Plastic Low Profile QFP, 20 x 20 x 1.45 mm Body, 0.5 mm Pitch; Code_JEITA: P-LQFP144-20x20-0.50; Code_IPC: SQFP50P2200X2200-144; ComponentLink1Description: Manufacturer Link; ComponentLink1URL: http://sg.renesas.com/fmwk.jsp?cnt=h8s_family_landing.jsp&fp=/products/mpumcu/h8s_family/; ComponentLink2Description: Datasheet; ComponentLink2URL: http://documentation.renesas.com/eng/products/mpumcu/rej09b0467_h8s2456hm.pdf; ComponentLink3Description: Packaging Specification; ComponentLink3URL: http://sg.renesas.com/media/products/common_info/package/pdf/ic/code/plqp0144kc_a.pdf
footprint PLQP0144KC-A_N (Shrink QFP, 144-Leads, Body 20x20mm, Pitch 0.5mm, IPC Medium Density)
footprint PLQP0144KC-A_L (Shrink QFP, 144-Leads, Body 20x20mm, Pitch 0.5mm, IPC High Density)
footprint PLQP0144KC-A_M (Shrink QFP, 144-Leads, Body 20x20mm, Pitch 0.5mm, IPC Low Density)
part A pins: 1 MD2 (in), 3 P80/~{IRQ0-B}/~{EDREQ2} (io), 5 PC0/A0/TIOCA9 (io), 6 PC1/A1/TIOCB9 (io), 7 PC2/A2/TIOCC9 (io), 8 PC3/A3/TIOCD9 (io), 9 PC4/A4/TIOCA10 (io), 11 PC5/A5/TIOCB10 (io), 12 PC6/A6/TIOCA11 (io), 13 PC7/A7/TIOCB11 (io), 14 PB0/A8/TIOCA6 (io), 15 PB1/A9/TIOCB6 (io), 16 PB2/A10/TIOCC6/TCLKE (io), 17 PB3/A11/TIOCD6/TCLKF (io), 19 PB4/A12/TIOCA7 (io), 20 PB5/A13/TIOCB7/TCLKG (io), 21 PB6/A14/TIOCA8 (io), 22 PB7/A15/TIOCB8/TCLKH (io), 23 PA0/A16 (io), 24 PA1/A17/TXD4-B (io), 26 PA2/A18/RXD4-B (io), 27 PA3/A19/SCK4-B (io), 28 PA4/A20/~{IRQ4-A}/~{SCS0-B} (io), 29 PA5/A21/~{IRQ5-A}/SSCK0-B (io), 30 PA6/A22/~{IRQ6-A}/SSI0-B (io), 31 PA7/A23/~{IRQ7-A}/SSO0-B (io), 32 EMLE (in), 33 P81/~{IRQ1-B}/PO1-B/TIOCB3-B/TMRI1-B/TXD3/~{EDREQ3} (io), 34 P82/~{IRQ2-B}/~{ETEBD2} (io), 35 PH0/~{CS4}/~{RAS4}/~{WE} (io), 36 PH1/~{CS5}/~{RAS5}/SDRAMF (io), 37 PH2/~{CS6}/~{IRQ6-B} (io), 38 PH3/~{CS7}/~{OE-A}/CKE-A/~{IRQ7-B} (io), 39 ~{WDTOVF} (out), 40 ~{NMI} (in), 42 P10/PO8/TIOCA0 (io), 43 P11/PO9/TIOCB0 (io), 44 P12/PO10/TIOCC0/TCLKA (io), 45 P13/PO11/TIOCD0/TCLKB (io), 46 P14/PO12/TIOCA1/SSO0-A (io), 47 P15/PO13/TIOCB1/TCLKC/SSI0-A (io), 48 P16/PO14/TIOCA2/~{EDRAK2}/SSCK0-A (io), 49 P17/PO15/TIOCB2/TCLKD/~{EDRAK3}/~{SCS0-A} (io), 51 P20/~{IRQ8-B}/PO0-A/TIOCA3-A/PUPD+ (io), 53 USD+ (io), 54 USD- (io), 56 P25/~{WAIT-B}/~{IRQ13-B}/PO5-A/TIOCB4-A/VBUS (io), 57 P26/~{IRQ14-B}/PO6/TIOCA5/SDA2/~{ADTRG1} (io), 58 P27/~{IRQ15-B}/PO7/TIOCB5/SCL2 (io), 59 P83/~{IRQ3-B}/PO3-B/TIOCD3-B/TMCI1-B/RXD3/~{ETEND3} (io), 60 P84/~{IRQ4-B}/~{EDACK2} (io), 61 P85/~{IRQ5-B}/PO5-B/TIOCB4-B/TMO1-B/SCK3/~{EDACK3} (io), 62 PJ2 (io), 63 PE0/D0/AD0 (io), 64 PE1/D1/AD1 (io), 65 PE2/D2/AD2 (io), 66 PE3/D3/AD3 (io), 67 PE4/D4/AD4 (io), 68 PE5/D5/AD5 (io), 69 PE6/D6/AD6 (io), 71 PE7/D7/AD7 (io), 73 PD0/D8/AD8 (io), 74 PD1/D9/AD9 (io), 75 PD2/D10/AD10 (io), 76 PD3/D11/AD11 (io), 77 PD4/D12/AD12 (io), 78 PD5/D13/AD13 (io), 79 PD6/D14/AD14 (io), 80 PD7/D15/AD15 (io), 81 P60/~{IRQ8-A}/~{DREQ0}/TMRI0-A (io), 82 P61/~{IRQ9-A}/~{DREQ1}/TMRI1-A (io), 83 P62/~{IRQ10-A}/~{TEND0}/TMCI0-A (io), 84 PF0/~{WAIT-A}/~{ADTRG0-B}/~{SCS0-C} (io), 85 PF1/~{UCAS}/DQMU/~{IRQ14-A}/SSCK-C (io), 86 PF2/~{LCAS}/DQML/~{IRQ15-A}/SSI0-C (io), 87 PF3/~{LWR}/SSO0-C (io), 88 PF4/~{HWR} (io), 89 PF5/~{RD} (io), 90 PF6/~{AS}/~{AH} (io), 92 ~{RES} (in), 94 PF7/F (io), 96 XTAL (in), 97 EXTAL (in), 100 PJ0 (io), 101 PJ1 (io), 103 ~{STBY} (in), 104 P63/~{IRQ11-A}/~{TEND1}/TMCI1-A (io), 105 P64/~{IRQ12-A}/~{DACK0}/TMO0-A (io), 106 P65/~{IRQ13-A}/~{DACK1}/TMO1-A (io), 107 PG0/~{CS0} (io), 108 PG1/~{CS1} (io), 109 PG2/~{CS2}/~{RAS2}/~{RAS} (io), 110 PG3/~{CS3}/~{RAS3}/~{CAS} (io), 112 VREF (in), 113 P40/AN0_0 (io), 114 P41/AN1_0 (io), 115 P42/AN2_0 (io), 116 P43/AN3_0 (io), 117 P44/AN4_0 (io), 118 P45/AN5_0 (io), 119 P46/AN6_0 (io), 120 P47/AN7_0 (io), 121 P90/AN8_1 (io), 122 P91/AN9_1 (io), 123 P92/AN10_1 (io), 124 P93/AN11_1 (io), 125 P94/AN12_1/DA2 (io), 126 P95/AN13_1/DA3 (io), 127 P96/AN14_1 (io), 128 P97/AN15_1 (io), 130 PG4/~{BREQO-A} (io), 131 PG5/~{BACK-A} (io), 132 PG6/~{BREQ-A} (io), 133 P50/~{BREQO-B}/~{IRQ0-A}/PO0-B/TIOCA3-B/TMRI0-B/TXD2/SDA3 (io), 134 P51/~{BREQ-B}/~{IRQ1-A}/PO2-B/TIOCC3-B/TMCI0-B/RXD2/SCL3 (io), 135 P52/~{BACK-B}/~{IRQ2-A}/PO4-B/TIOCA4-B/TMO0-B/SCK2 (io), 136 P53/~{IRQ3-A}/~{ADTRG0-A} (io), 137 P35/~{OE-B}/CKE-B/SCK1/SCL0 (io), 138 P34/SCK0/SCK4-A/SDA0 (io), 139 P33/RXD1/SCL1 (io), 140 P32/RXD0/IRRXD/SDA1 (io), 141 P31/TXD1 (io), 142 P30/TXD0/IRTXD (io), 143 MD0 (in), 144 MD1 (in)
part B pins: 2 VSS (power), 4 VCC (power), 10 VSS (power), 18 VSS (power), 25 VSS (power), 41 VCL, 50 VSS (power), 52 DRVCC (power), 55 DRVSS (power), 70 VSS (power), 72 VCC (power), 91 PLLVCC (power), 93 PLLVSS (power), 95 VSS (power), 98 VCC (power), 99 VCC (power), 102 VSS (power), 111 AVCC (power), 129 AVSS (power)

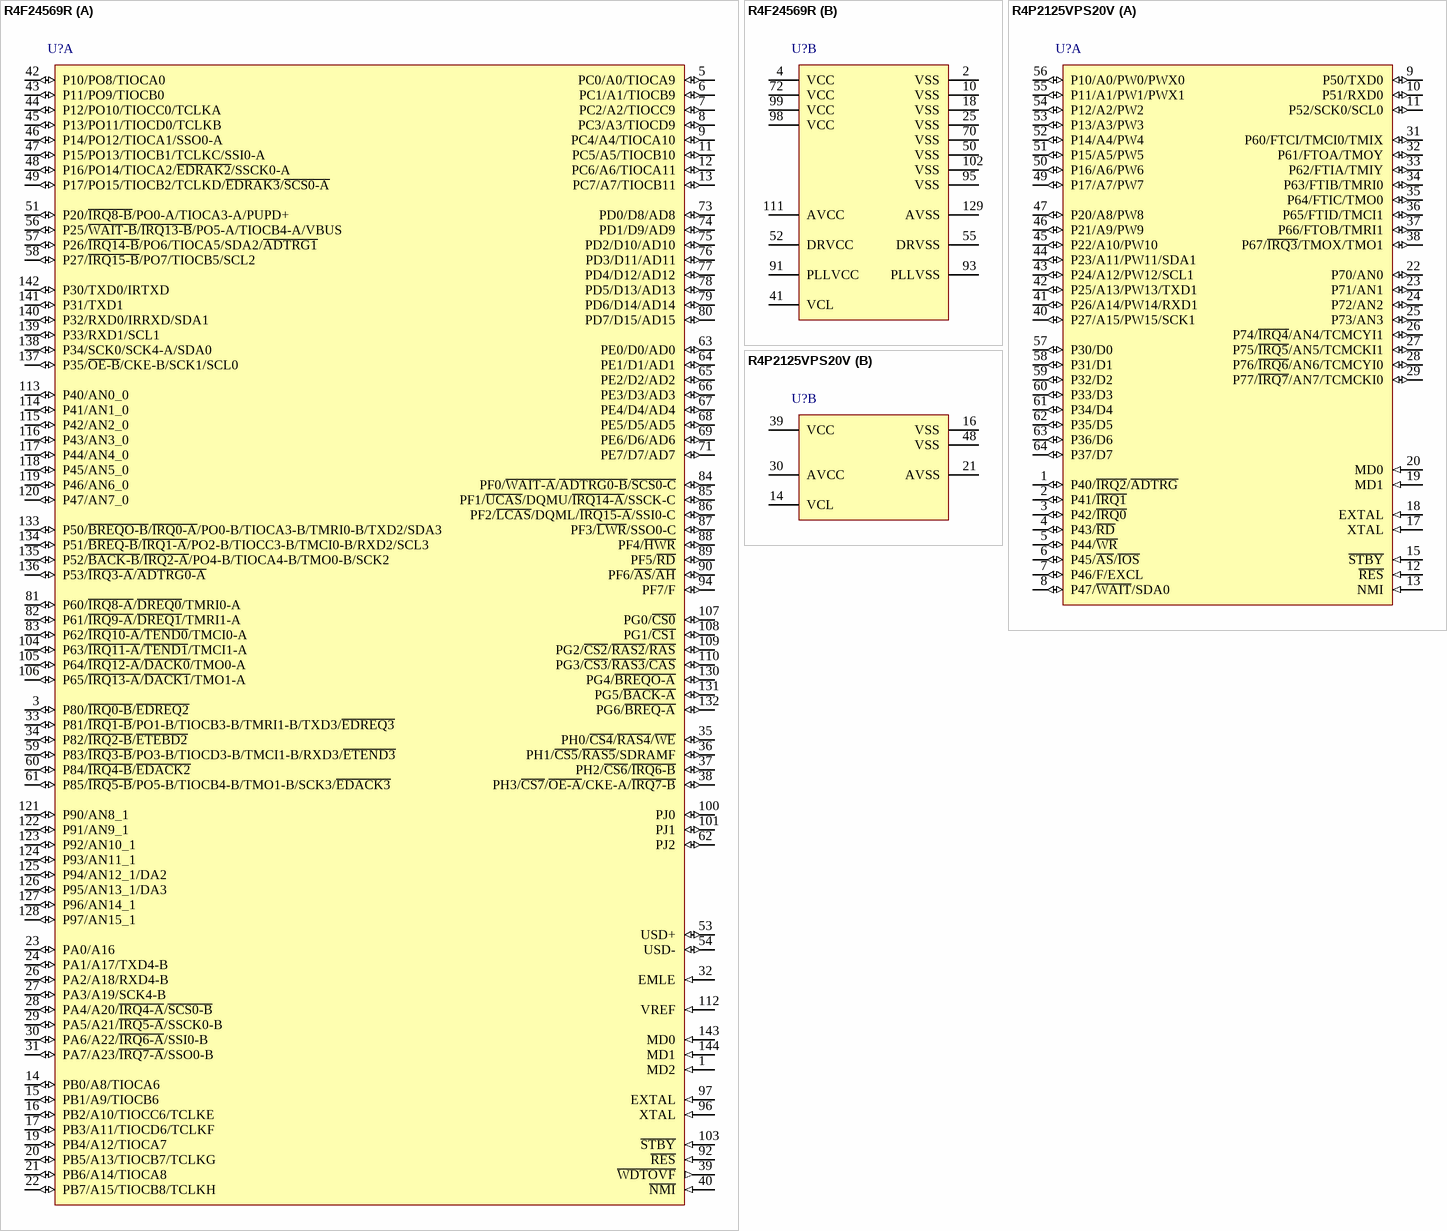
[diagram p239: symbols R4F24569R to R4P2125VPS20V]

## R4F24569R
designator U?
Flash memory H8S/2400 Series, 2456R Group MCU, 256K ROM, 64K RAM, FP-144H Pkg; Published: 28-Aug-2009; DatasheetVersion: Rev.2.00, Apr-2009; PackageVersion: Sep-2005; PackageReference: PLQP0144KC-A; Publisher: Altium Limited; PackageDescription: 144-Pin Plastic Low Profile QFP, 20 x 20 x 1.45 mm Body, 0.5 mm Pitch; Code_JEITA: P-LQFP144-20x20-0.50; Code_IPC: SQFP50P2200X2200-144; ComponentLink1Description: Manufacturer Link; ComponentLink1URL: http://sg.renesas.com/fmwk.jsp?cnt=h8s_family_landing.jsp&fp=/products/mpumcu/h8s_family/; ComponentLink2Description: Datasheet; ComponentLink2URL: http://documentation.renesas.com/eng/products/mpumcu/rej09b0467_h8s2456hm.pdf; ComponentLink3Description: Packaging Specification; ComponentLink3URL: http://sg.renesas.com/media/products/common_info/package/pdf/ic/code/plqp0144kc_a.pdf
footprint PLQP0144KC-A_N (Shrink QFP, 144-Leads, Body 20x20mm, Pitch 0.5mm, IPC Medium Density)
footprint PLQP0144KC-A_L (Shrink QFP, 144-Leads, Body 20x20mm, Pitch 0.5mm, IPC High Density)
footprint PLQP0144KC-A_M (Shrink QFP, 144-Leads, Body 20x20mm, Pitch 0.5mm, IPC Low Density)
part A pins: 1 MD2 (in), 3 P80/~{IRQ0-B}/~{EDREQ2} (io), 5 PC0/A0/TIOCA9 (io), 6 PC1/A1/TIOCB9 (io), 7 PC2/A2/TIOCC9 (io), 8 PC3/A3/TIOCD9 (io), 9 PC4/A4/TIOCA10 (io), 11 PC5/A5/TIOCB10 (io), 12 PC6/A6/TIOCA11 (io), 13 PC7/A7/TIOCB11 (io), 14 PB0/A8/TIOCA6 (io), 15 PB1/A9/TIOCB6 (io), 16 PB2/A10/TIOCC6/TCLKE (io), 17 PB3/A11/TIOCD6/TCLKF (io), 19 PB4/A12/TIOCA7 (io), 20 PB5/A13/TIOCB7/TCLKG (io), 21 PB6/A14/TIOCA8 (io), 22 PB7/A15/TIOCB8/TCLKH (io), 23 PA0/A16 (io), 24 PA1/A17/TXD4-B (io), 26 PA2/A18/RXD4-B (io), 27 PA3/A19/SCK4-B (io), 28 PA4/A20/~{IRQ4-A}/~{SCS0-B} (io), 29 PA5/A21/~{IRQ5-A}/SSCK0-B (io), 30 PA6/A22/~{IRQ6-A}/SSI0-B (io), 31 PA7/A23/~{IRQ7-A}/SSO0-B (io), 32 EMLE (in), 33 P81/~{IRQ1-B}/PO1-B/TIOCB3-B/TMRI1-B/TXD3/~{EDREQ3} (io), 34 P82/~{IRQ2-B}/~{ETEBD2} (io), 35 PH0/~{CS4}/~{RAS4}/~{WE} (io), 36 PH1/~{CS5}/~{RAS5}/SDRAMF (io), 37 PH2/~{CS6}/~{IRQ6-B} (io), 38 PH3/~{CS7}/~{OE-A}/CKE-A/~{IRQ7-B} (io), 39 ~{WDTOVF} (out), 40 ~{NMI} (in), 42 P10/PO8/TIOCA0 (io), 43 P11/PO9/TIOCB0 (io), 44 P12/PO10/TIOCC0/TCLKA (io), 45 P13/PO11/TIOCD0/TCLKB (io), 46 P14/PO12/TIOCA1/SSO0-A (io), 47 P15/PO13/TIOCB1/TCLKC/SSI0-A (io), 48 P16/PO14/TIOCA2/~{EDRAK2}/SSCK0-A (io), 49 P17/PO15/TIOCB2/TCLKD/~{EDRAK3}/~{SCS0-A} (io), 51 P20/~{IRQ8-B}/PO0-A/TIOCA3-A/PUPD+ (io), 53 USD+ (io), 54 USD- (io), 56 P25/~{WAIT-B}/~{IRQ13-B}/PO5-A/TIOCB4-A/VBUS (io), 57 P26/~{IRQ14-B}/PO6/TIOCA5/SDA2/~{ADTRG1} (io), 58 P27/~{IRQ15-B}/PO7/TIOCB5/SCL2 (io), 59 P83/~{IRQ3-B}/PO3-B/TIOCD3-B/TMCI1-B/RXD3/~{ETEND3} (io), 60 P84/~{IRQ4-B}/~{EDACK2} (io), 61 P85/~{IRQ5-B}/PO5-B/TIOCB4-B/TMO1-B/SCK3/~{EDACK3} (io), 62 PJ2 (io), 63 PE0/D0/AD0 (io), 64 PE1/D1/AD1 (io), 65 PE2/D2/AD2 (io), 66 PE3/D3/AD3 (io), 67 PE4/D4/AD4 (io), 68 PE5/D5/AD5 (io), 69 PE6/D6/AD6 (io), 71 PE7/D7/AD7 (io), 73 PD0/D8/AD8 (io), 74 PD1/D9/AD9 (io), 75 PD2/D10/AD10 (io), 76 PD3/D11/AD11 (io), 77 PD4/D12/AD12 (io), 78 PD5/D13/AD13 (io), 79 PD6/D14/AD14 (io), 80 PD7/D15/AD15 (io), 81 P60/~{IRQ8-A}/~{DREQ0}/TMRI0-A (io), 82 P61/~{IRQ9-A}/~{DREQ1}/TMRI1-A (io), 83 P62/~{IRQ10-A}/~{TEND0}/TMCI0-A (io), 84 PF0/~{WAIT-A}/~{ADTRG0-B}/~{SCS0-C} (io), 85 PF1/~{UCAS}/DQMU/~{IRQ14-A}/SSCK-C (io), 86 PF2/~{LCAS}/DQML/~{IRQ15-A}/SSI0-C (io), 87 PF3/~{LWR}/SSO0-C (io), 88 PF4/~{HWR} (io), 89 PF5/~{RD} (io), 90 PF6/~{AS}/~{AH} (io), 92 ~{RES} (in), 94 PF7/F (io), 96 XTAL (in), 97 EXTAL (in), 100 PJ0 (io), 101 PJ1 (io), 103 ~{STBY} (in), 104 P63/~{IRQ11-A}/~{TEND1}/TMCI1-A (io), 105 P64/~{IRQ12-A}/~{DACK0}/TMO0-A (io), 106 P65/~{IRQ13-A}/~{DACK1}/TMO1-A (io), 107 PG0/~{CS0} (io), 108 PG1/~{CS1} (io), 109 PG2/~{CS2}/~{RAS2}/~{RAS} (io), 110 PG3/~{CS3}/~{RAS3}/~{CAS} (io), 112 VREF (in), 113 P40/AN0_0 (io), 114 P41/AN1_0 (io), 115 P42/AN2_0 (io), 116 P43/AN3_0 (io), 117 P44/AN4_0 (io), 118 P45/AN5_0 (io), 119 P46/AN6_0 (io), 120 P47/AN7_0 (io), 121 P90/AN8_1 (io), 122 P91/AN9_1 (io), 123 P92/AN10_1 (io), 124 P93/AN11_1 (io), 125 P94/AN12_1/DA2 (io), 126 P95/AN13_1/DA3 (io), 127 P96/AN14_1 (io), 128 P97/AN15_1 (io), 130 PG4/~{BREQO-A} (io), 131 PG5/~{BACK-A} (io), 132 PG6/~{BREQ-A} (io), 133 P50/~{BREQO-B}/~{IRQ0-A}/PO0-B/TIOCA3-B/TMRI0-B/TXD2/SDA3 (io), 134 P51/~{BREQ-B}/~{IRQ1-A}/PO2-B/TIOCC3-B/TMCI0-B/RXD2/SCL3 (io), 135 P52/~{BACK-B}/~{IRQ2-A}/PO4-B/TIOCA4-B/TMO0-B/SCK2 (io), 136 P53/~{IRQ3-A}/~{ADTRG0-A} (io), 137 P35/~{OE-B}/CKE-B/SCK1/SCL0 (io), 138 P34/SCK0/SCK4-A/SDA0 (io), 139 P33/RXD1/SCL1 (io), 140 P32/RXD0/IRRXD/SDA1 (io), 141 P31/TXD1 (io), 142 P30/TXD0/IRTXD (io), 143 MD0 (in), 144 MD1 (in)
part B pins: 2 VSS (power), 4 VCC (power), 10 VSS (power), 18 VSS (power), 25 VSS (power), 41 VCL, 50 VSS (power), 52 DRVCC (power), 55 DRVSS (power), 70 VSS (power), 72 VCC (power), 91 PLLVCC (power), 93 PLLVSS (power), 95 VSS (power), 98 VCC (power), 99 VCC (power), 102 VSS (power), 111 AVCC (power), 129 AVSS (power)